# Altium integrated library Xilinx CoolRunner XPLA3.IntLib: 220 symbols (part 12 of 17)
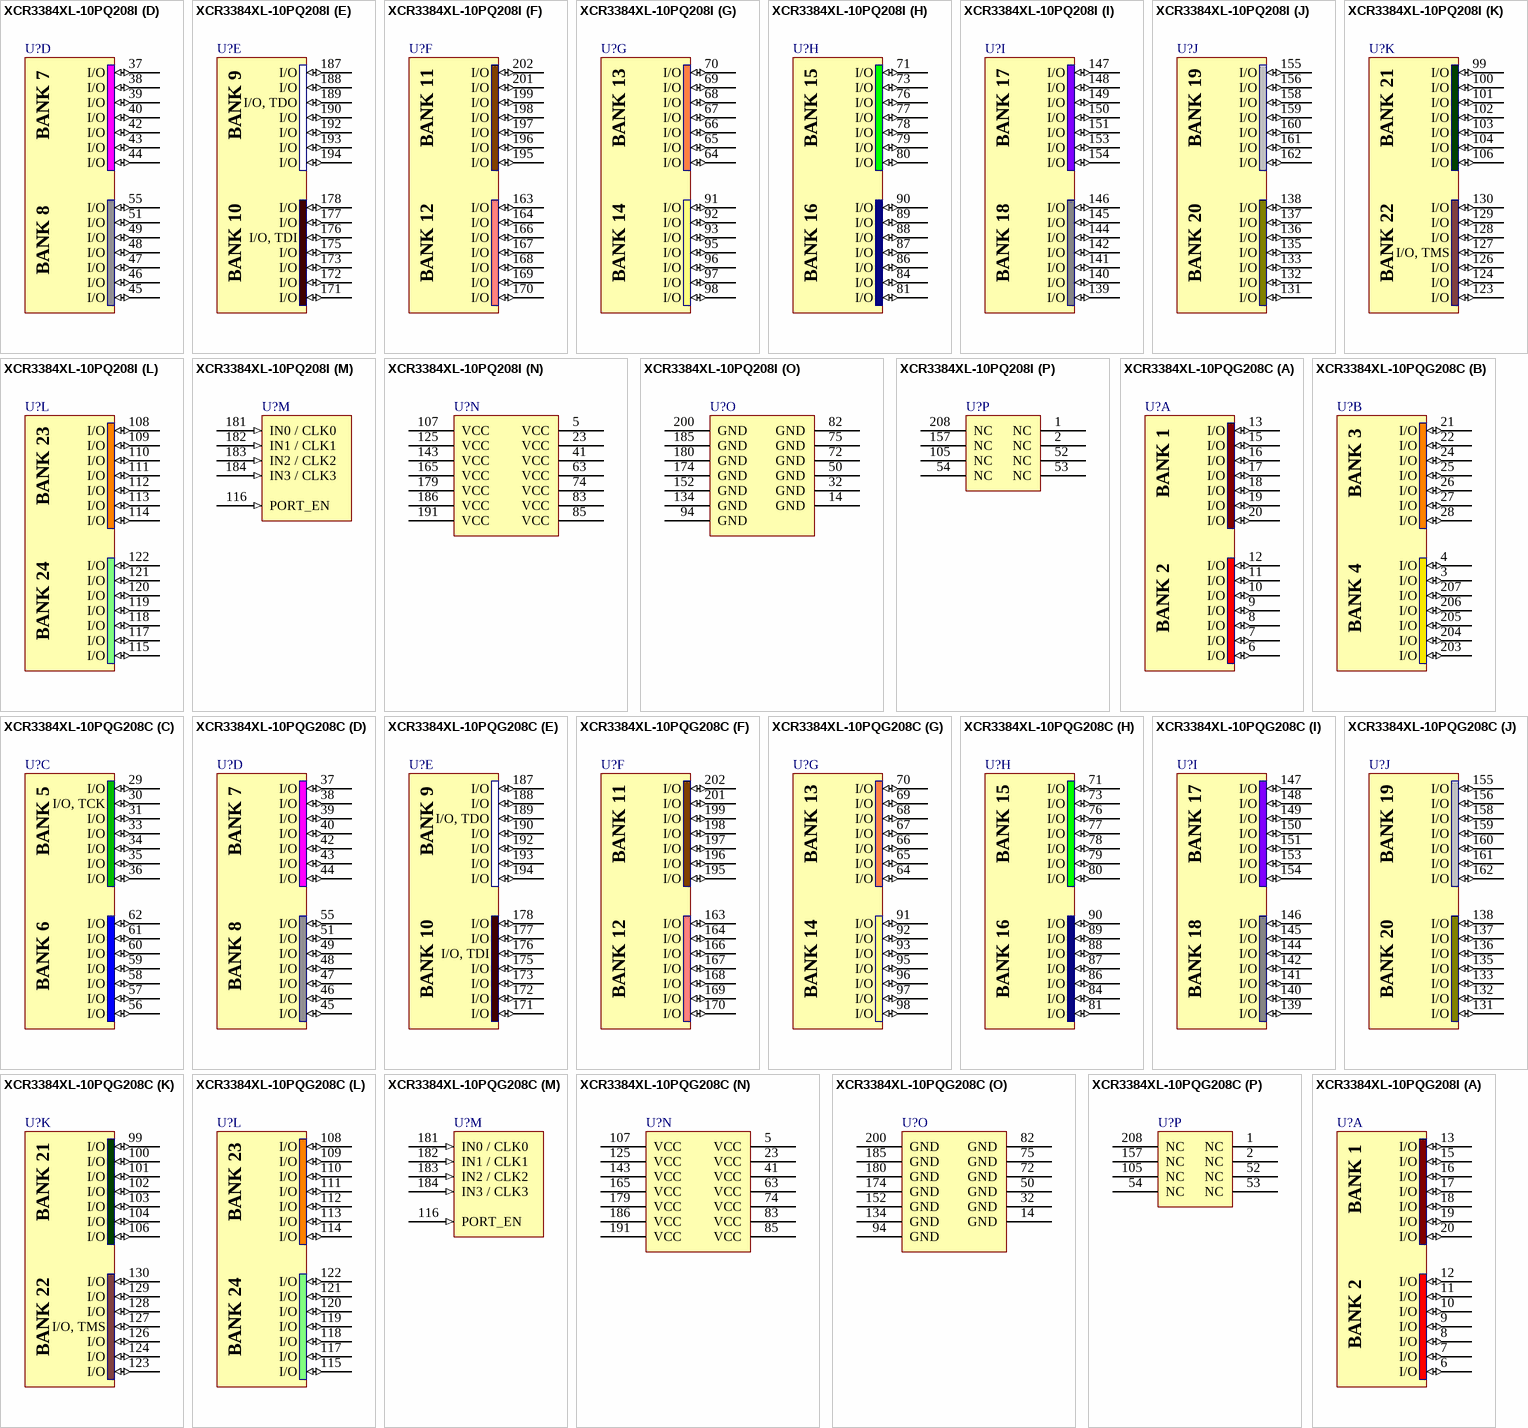
[diagram p100: symbols XCR3384XL-10PQ208I to XCR3384XL-10PQG208I]

## XCR3384XL-10PQG208C
designator U?
CoolRunner XPLA3 3.3V, 384 Macrocell CPLD, 172 User I/Os, 208-Pin PQFP, Commercial Grade, Pb-Free; Published: 6-Oct-2005; LatestRevisionDate: 13-Apr-2006; LatestRevisionNote: IPC-7351 Footprint Added.; DatasheetVersion: ver2.0, Mar-2006; PackageVersion: ver1.2, Jun-2004; PackageReference: PQG208; Publisher: Altium Limited; PackageDescription: 208-Pin Plastic Quad Flat Pack (PQG208) - Pb-Free; Code_JEDEC: MS-029-FA-1; ComponentLink1Description: XCR3384XL Datasheet; ComponentLink1URL: http://www.xilinx.com/support/documentation/data_sheets/ds024.pdf; ComponentLink2Description: PQG208 Package Drawing; ComponentLink2URL: http://www.xilinx.com/support/documentation/package_specs/pq208.pdf; ComponentLink3Description: CoolRunner XPLA3 Documents; ComponentLink3URL: http://www.xilinx.com/support/documentation/coolrunner_xpla3.htm; ComponentLink4Description: Xilinx.com Home; ComponentLink4URL: http://www.xilinx.com
footprint PQG208_N (Shrink QFP, 208-Leads, Body 28x28mm, Pitch 0.5mm, IPC Medium Density)
footprint PQG208_L (Shrink QFP, 208-Leads, Body 28x28mm, Pitch 0.5mm, IPC High Density)
footprint PQG208_M (Shrink QFP, 208-Leads, Body 28x28mm, Pitch 0.5mm, IPC Low Density)
signal-integrity model XCR3384XL_PQ208 (CoolRunner XPLA3)
part A pins: 6 I/O (io), 7 I/O (io), 8 I/O (io), 9 I/O (io), 10 I/O (io), 11 I/O (io), 12 I/O (io), 13 I/O (io), 15 I/O (io), 16 I/O (io), 17 I/O (io), 18 I/O (io), 19 I/O (io), 20 I/O (io)
part B pins: 3 I/O (io), 4 I/O (io), 21 I/O (io), 22 I/O (io), 24 I/O (io), 25 I/O (io), 26 I/O (io), 27 I/O (io), 28 I/O (io), 203 I/O (io), 204 I/O (io), 205 I/O (io), 206 I/O (io), 207 I/O (io)
part C pins: 29 I/O (io), 30 I/O, TCK (io), 31 I/O (io), 33 I/O (io), 34 I/O (io), 35 I/O (io), 36 I/O (io), 56 I/O (io), 57 I/O (io), 58 I/O (io), 59 I/O (io), 60 I/O (io), 61 I/O (io), 62 I/O (io)
part D pins: 37 I/O (io), 38 I/O (io), 39 I/O (io), 40 I/O (io), 42 I/O (io), 43 I/O (io), 44 I/O (io), 45 I/O (io), 46 I/O (io), 47 I/O (io), 48 I/O (io), 49 I/O (io), 51 I/O (io), 55 I/O (io)
part E pins: 171 I/O (io), 172 I/O (io), 173 I/O (io), 175 I/O (io), 176 I/O, TDI (io), 177 I/O (io), 178 I/O (io), 187 I/O (io), 188 I/O (io), 189 I/O, TDO (io), 190 I/O (io), 192 I/O (io), 193 I/O (io), 194 I/O (io)
part F pins: 163 I/O (io), 164 I/O (io), 166 I/O (io), 167 I/O (io), 168 I/O (io), 169 I/O (io), 170 I/O (io), 195 I/O (io), 196 I/O (io), 197 I/O (io), 198 I/O (io), 199 I/O (io), 201 I/O (io), 202 I/O (io)
part G pins: 64 I/O (io), 65 I/O (io), 66 I/O (io), 67 I/O (io), 68 I/O (io), 69 I/O (io), 70 I/O (io), 91 I/O (io), 92 I/O (io), 93 I/O (io), 95 I/O (io), 96 I/O (io), 97 I/O (io), 98 I/O (io)
part H pins: 71 I/O (io), 73 I/O (io), 76 I/O (io), 77 I/O (io), 78 I/O (io), 79 I/O (io), 80 I/O (io), 81 I/O (io), 84 I/O (io), 86 I/O (io), 87 I/O (io), 88 I/O (io), 89 I/O (io), 90 I/O (io)
part I pins: 139 I/O (io), 140 I/O (io), 141 I/O (io), 142 I/O (io), 144 I/O (io), 145 I/O (io), 146 I/O (io), 147 I/O (io), 148 I/O (io), 149 I/O (io), 150 I/O (io), 151 I/O (io), 153 I/O (io), 154 I/O (io)
part J pins: 131 I/O (io), 132 I/O (io), 133 I/O (io), 135 I/O (io), 136 I/O (io), 137 I/O (io), 138 I/O (io), 155 I/O (io), 156 I/O (io), 158 I/O (io), 159 I/O (io), 160 I/O (io), 161 I/O (io), 162 I/O (io)
part K pins: 99 I/O (io), 100 I/O (io), 101 I/O (io), 102 I/O (io), 103 I/O (io), 104 I/O (io), 106 I/O (io), 123 I/O (io), 124 I/O (io), 126 I/O (io), 127 I/O, TMS (io), 128 I/O (io), 129 I/O (io), 130 I/O (io)
part L pins: 108 I/O (io), 109 I/O (io), 110 I/O (io), 111 I/O (io), 112 I/O (io), 113 I/O (io), 114 I/O (io), 115 I/O (io), 117 I/O (io), 118 I/O (io), 119 I/O (io), 120 I/O (io), 121 I/O (io), 122 I/O (io)
part M pins: 116 PORT_EN (in), 181 IN0 / CLK0 (in), 182 IN1 / CLK1 (in), 183 IN2 / CLK2 (in), 184 IN3 / CLK3 (in)
part N pins: 5 VCC (power), 23 VCC (power), 41 VCC (power), 63 VCC (power), 74 VCC (power), 83 VCC (power), 85 VCC (power), 107 VCC (power), 125 VCC (power), 143 VCC (power), 165 VCC (power), 179 VCC (power), 186 VCC (power), 191 VCC (power)
part O pins: 14 GND (power), 32 GND (power), 50 GND (power), 72 GND (power), 75 GND (power), 82 GND (power), 94 GND (power), 134 GND (power), 152 GND (power), 174 GND (power), 180 GND (power), 185 GND (power), 200 GND (power)
part P pins: 1 NC, 2 NC, 52 NC, 53 NC, 54 NC, 105 NC, 157 NC, 208 NC
part A text: BANK 1; BANK 2
part B text: BANK 3; BANK 4
part C text: BANK 5; BANK 6
part D text: BANK 7; BANK 8
part E text: BANK 9; BANK 10
part F text: BANK 11; BANK 12
part G text: BANK 13; BANK 14
part H text: BANK 15; BANK 16
part I text: BANK 17; BANK 18
part J text: BANK 19; BANK 20
part K text: BANK 21; BANK 22
part L text: BANK 23; BANK 24

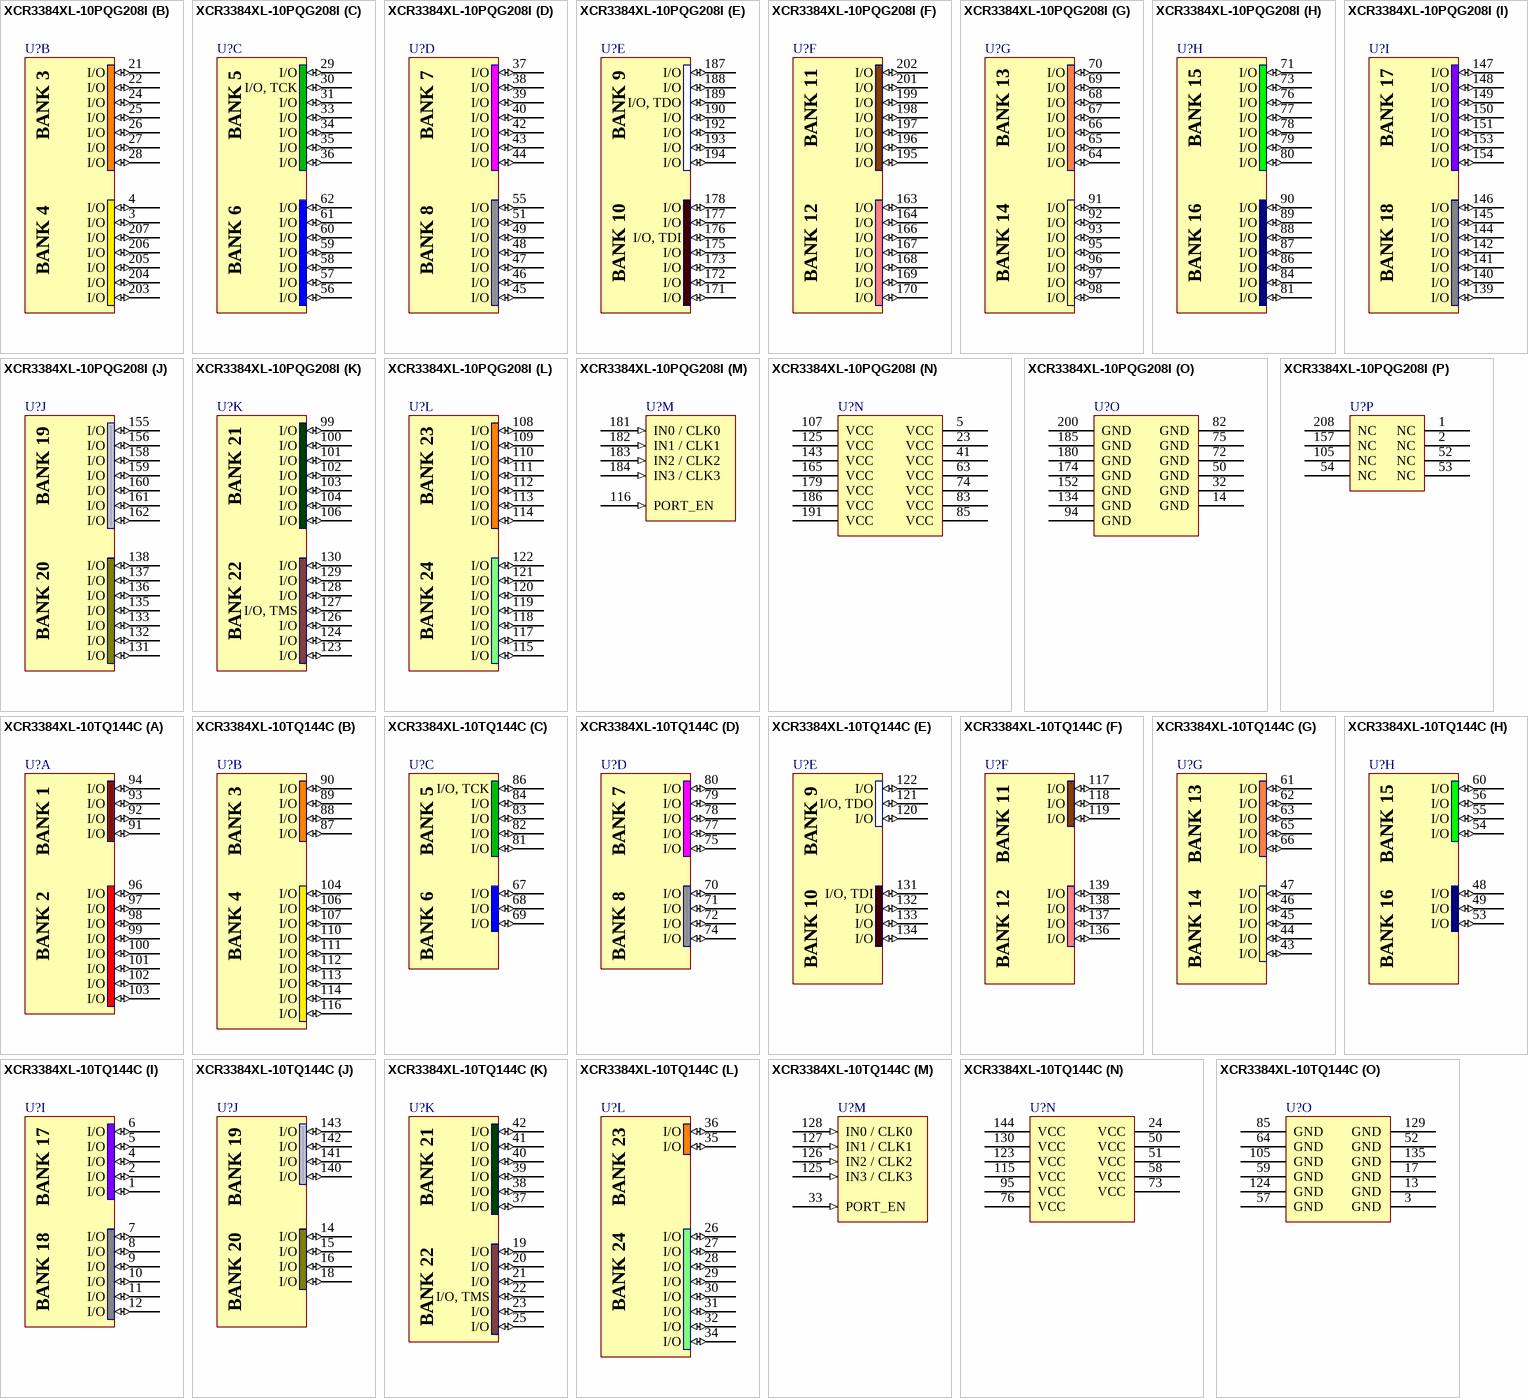
[diagram p58: symbols XCR3384XL-10PQG208I to XCR3384XL-10TQ144C]

## XCR3384XL-10PQG208I
designator U?
CoolRunner XPLA3 3.3V, 384 Macrocell CPLD, 172 User I/Os, 208-Pin PQFP, Industrial Grade, Pb-Free; Published: 6-Oct-2005; LatestRevisionDate: 13-Apr-2006; LatestRevisionNote: IPC-7351 Footprint Added.; DatasheetVersion: ver2.0, Mar-2006; PackageVersion: ver1.2, Jun-2004; PackageReference: PQG208; Publisher: Altium Limited; PackageDescription: 208-Pin Plastic Quad Flat Pack (PQG208) - Pb-Free; Code_JEDEC: MS-029-FA-1; ComponentLink1Description: XCR3384XL Datasheet; ComponentLink1URL: http://www.xilinx.com/support/documentation/data_sheets/ds024.pdf; ComponentLink2Description: PQG208 Package Drawing; ComponentLink2URL: http://www.xilinx.com/support/documentation/package_specs/pq208.pdf; ComponentLink3Description: CoolRunner XPLA3 Documents; ComponentLink3URL: http://www.xilinx.com/support/documentation/coolrunner_xpla3.htm; ComponentLink4Description: Xilinx.com Home; ComponentLink4URL: http://www.xilinx.com
footprint PQG208_N (Shrink QFP, 208-Leads, Body 28x28mm, Pitch 0.5mm, IPC Medium Density)
footprint PQG208_L (Shrink QFP, 208-Leads, Body 28x28mm, Pitch 0.5mm, IPC High Density)
footprint PQG208_M (Shrink QFP, 208-Leads, Body 28x28mm, Pitch 0.5mm, IPC Low Density)
signal-integrity model XCR3384XL_PQ208 (CoolRunner XPLA3)
part A pins: 6 I/O (io), 7 I/O (io), 8 I/O (io), 9 I/O (io), 10 I/O (io), 11 I/O (io), 12 I/O (io), 13 I/O (io), 15 I/O (io), 16 I/O (io), 17 I/O (io), 18 I/O (io), 19 I/O (io), 20 I/O (io)
part B pins: 3 I/O (io), 4 I/O (io), 21 I/O (io), 22 I/O (io), 24 I/O (io), 25 I/O (io), 26 I/O (io), 27 I/O (io), 28 I/O (io), 203 I/O (io), 204 I/O (io), 205 I/O (io), 206 I/O (io), 207 I/O (io)
part C pins: 29 I/O (io), 30 I/O, TCK (io), 31 I/O (io), 33 I/O (io), 34 I/O (io), 35 I/O (io), 36 I/O (io), 56 I/O (io), 57 I/O (io), 58 I/O (io), 59 I/O (io), 60 I/O (io), 61 I/O (io), 62 I/O (io)
part D pins: 37 I/O (io), 38 I/O (io), 39 I/O (io), 40 I/O (io), 42 I/O (io), 43 I/O (io), 44 I/O (io), 45 I/O (io), 46 I/O (io), 47 I/O (io), 48 I/O (io), 49 I/O (io), 51 I/O (io), 55 I/O (io)
part E pins: 171 I/O (io), 172 I/O (io), 173 I/O (io), 175 I/O (io), 176 I/O, TDI (io), 177 I/O (io), 178 I/O (io), 187 I/O (io), 188 I/O (io), 189 I/O, TDO (io), 190 I/O (io), 192 I/O (io), 193 I/O (io), 194 I/O (io)
part F pins: 163 I/O (io), 164 I/O (io), 166 I/O (io), 167 I/O (io), 168 I/O (io), 169 I/O (io), 170 I/O (io), 195 I/O (io), 196 I/O (io), 197 I/O (io), 198 I/O (io), 199 I/O (io), 201 I/O (io), 202 I/O (io)
part G pins: 64 I/O (io), 65 I/O (io), 66 I/O (io), 67 I/O (io), 68 I/O (io), 69 I/O (io), 70 I/O (io), 91 I/O (io), 92 I/O (io), 93 I/O (io), 95 I/O (io), 96 I/O (io), 97 I/O (io), 98 I/O (io)
part H pins: 71 I/O (io), 73 I/O (io), 76 I/O (io), 77 I/O (io), 78 I/O (io), 79 I/O (io), 80 I/O (io), 81 I/O (io), 84 I/O (io), 86 I/O (io), 87 I/O (io), 88 I/O (io), 89 I/O (io), 90 I/O (io)
part I pins: 139 I/O (io), 140 I/O (io), 141 I/O (io), 142 I/O (io), 144 I/O (io), 145 I/O (io), 146 I/O (io), 147 I/O (io), 148 I/O (io), 149 I/O (io), 150 I/O (io), 151 I/O (io), 153 I/O (io), 154 I/O (io)
part J pins: 131 I/O (io), 132 I/O (io), 133 I/O (io), 135 I/O (io), 136 I/O (io), 137 I/O (io), 138 I/O (io), 155 I/O (io), 156 I/O (io), 158 I/O (io), 159 I/O (io), 160 I/O (io), 161 I/O (io), 162 I/O (io)
part K pins: 99 I/O (io), 100 I/O (io), 101 I/O (io), 102 I/O (io), 103 I/O (io), 104 I/O (io), 106 I/O (io), 123 I/O (io), 124 I/O (io), 126 I/O (io), 127 I/O, TMS (io), 128 I/O (io), 129 I/O (io), 130 I/O (io)
part L pins: 108 I/O (io), 109 I/O (io), 110 I/O (io), 111 I/O (io), 112 I/O (io), 113 I/O (io), 114 I/O (io), 115 I/O (io), 117 I/O (io), 118 I/O (io), 119 I/O (io), 120 I/O (io), 121 I/O (io), 122 I/O (io)
part M pins: 116 PORT_EN (in), 181 IN0 / CLK0 (in), 182 IN1 / CLK1 (in), 183 IN2 / CLK2 (in), 184 IN3 / CLK3 (in)
part N pins: 5 VCC (power), 23 VCC (power), 41 VCC (power), 63 VCC (power), 74 VCC (power), 83 VCC (power), 85 VCC (power), 107 VCC (power), 125 VCC (power), 143 VCC (power), 165 VCC (power), 179 VCC (power), 186 VCC (power), 191 VCC (power)
part O pins: 14 GND (power), 32 GND (power), 50 GND (power), 72 GND (power), 75 GND (power), 82 GND (power), 94 GND (power), 134 GND (power), 152 GND (power), 174 GND (power), 180 GND (power), 185 GND (power), 200 GND (power)
part P pins: 1 NC, 2 NC, 52 NC, 53 NC, 54 NC, 105 NC, 157 NC, 208 NC
part A text: BANK 1; BANK 2
part B text: BANK 3; BANK 4
part C text: BANK 5; BANK 6
part D text: BANK 7; BANK 8
part E text: BANK 9; BANK 10
part F text: BANK 11; BANK 12
part G text: BANK 13; BANK 14
part H text: BANK 15; BANK 16
part I text: BANK 17; BANK 18
part J text: BANK 19; BANK 20
part K text: BANK 21; BANK 22
part L text: BANK 23; BANK 24

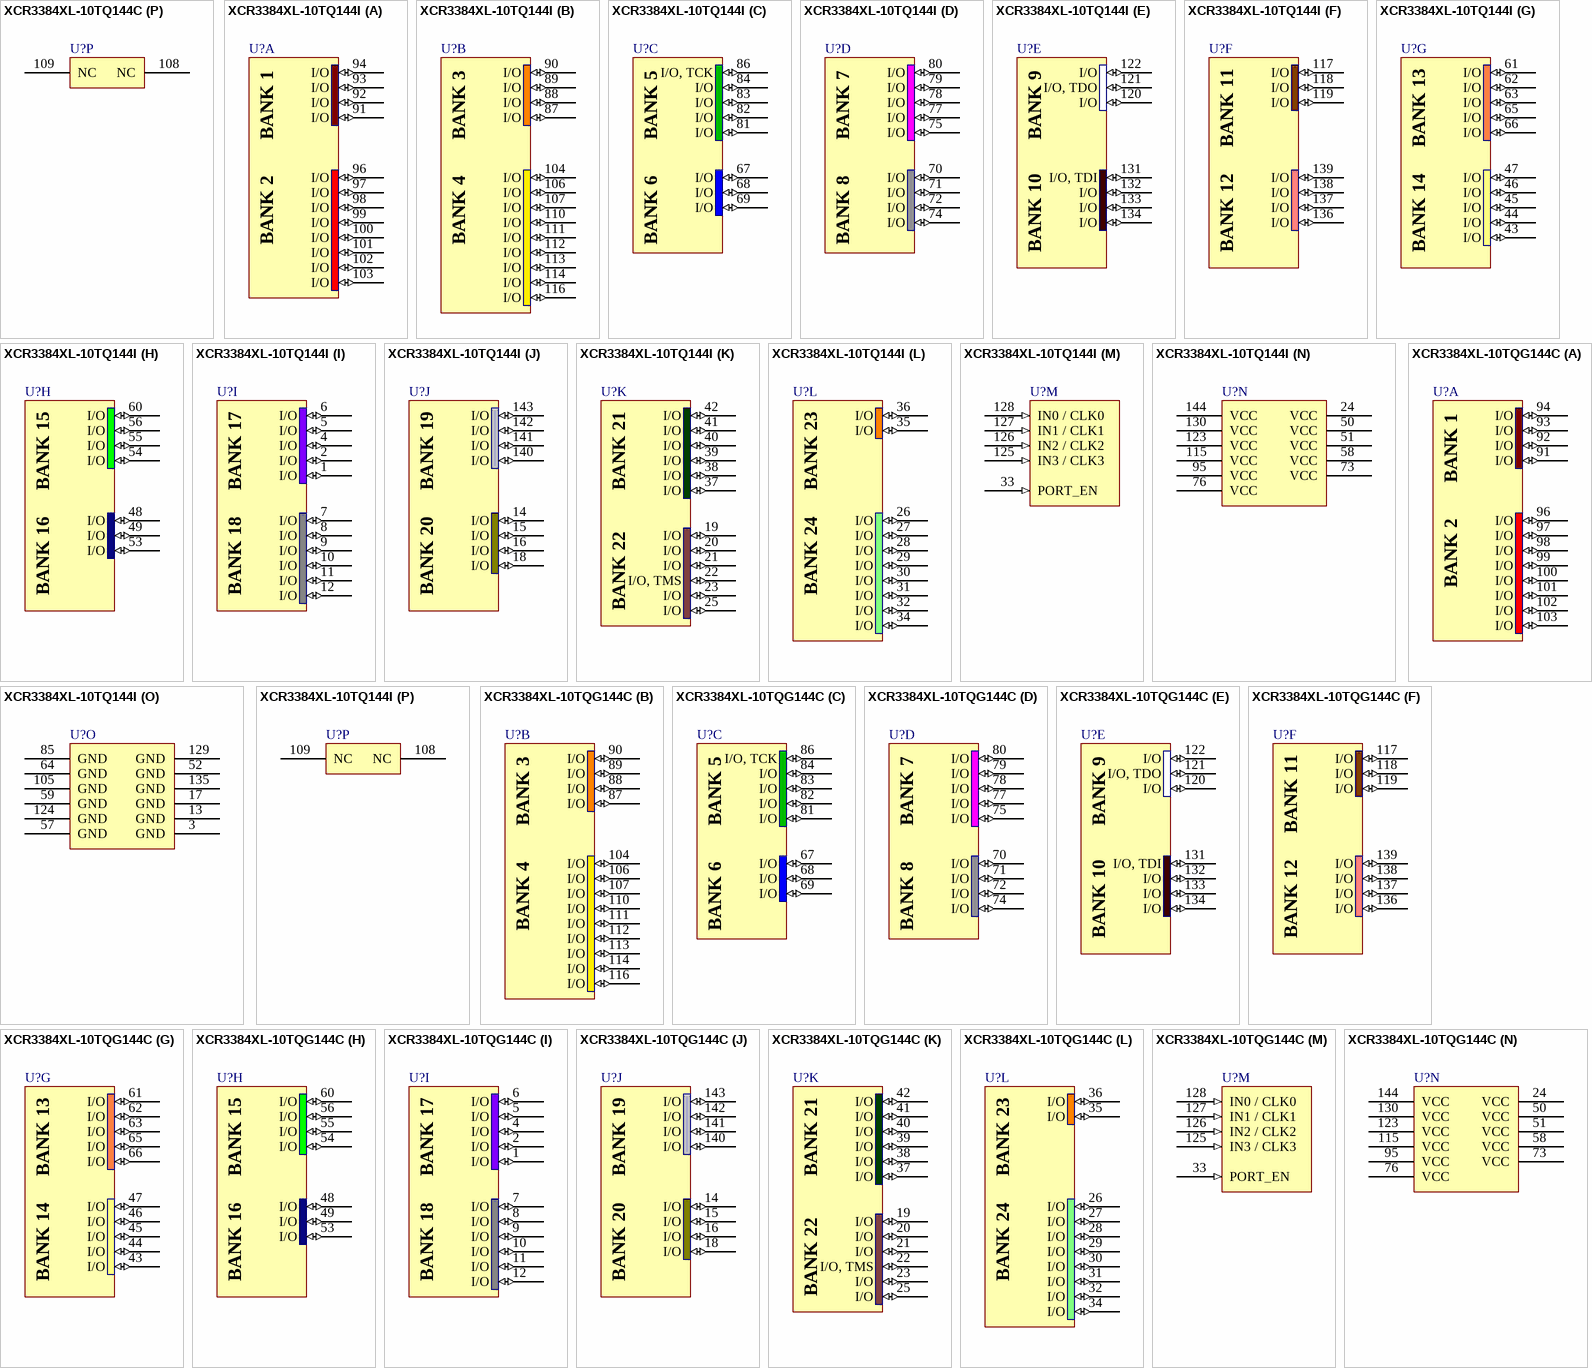
[diagram p59: symbols XCR3384XL-10TQ144C to XCR3384XL-10TQG144C]

## XCR3384XL-10TQ144C
designator U?
CoolRunner XPLA3 3.3V, 384 Macrocell CPLD, 118 User I/Os, 144-Pin TQFP, Commercial Grade; Published: 17-Jul-2002; LatestRevisionDate: 13-Apr-2006; LatestRevisionNote: IPC-7351 Footprint Added.; DatasheetVersion: ver2.0, Mar-2006; PackageVersion: ver1.2, Jun-2004; PackageReference: TQ144; Publisher: Altium Limited; PackageDescription: 144-Pin Thin Quad Flat Pack (TQ144); Code_JEDEC: MS-026-BFB; ComponentLink1Description: XCR3384XL Datasheet; ComponentLink1URL: http://www.xilinx.com/support/documentation/data_sheets/ds024.pdf; ComponentLink2Description: TQ144 Package Drawing; ComponentLink2URL: http://www.xilinx.com/support/documentation/package_specs/tq144.pdf; ComponentLink3Description: CoolRunner XPLA3 Documents; ComponentLink3URL: http://www.xilinx.com/support/documentation/coolrunner_xpla3.htm; ComponentLink4Description: Xilinx.com Home; ComponentLink4URL: http://www.xilinx.com
footprint TQ144_N (Thin QFP, 144-Leads, Body 20x20mm, Pitch 0.5mm, IPC Medium Density)
footprint TQ144_L (Thin QFP, 144-Leads, Body 20x20mm, Pitch 0.5mm, IPC High Density)
footprint TQ144_M (Thin QFP, 144-Leads, Body 20x20mm, Pitch 0.5mm, IPC Low Density)
signal-integrity model XCR3384XL_TQ144 (CoolRunner XPLA3)
part A pins: 91 I/O (io), 92 I/O (io), 93 I/O (io), 94 I/O (io), 96 I/O (io), 97 I/O (io), 98 I/O (io), 99 I/O (io), 100 I/O (io), 101 I/O (io), 102 I/O (io), 103 I/O (io)
part B pins: 87 I/O (io), 88 I/O (io), 89 I/O (io), 90 I/O (io), 104 I/O (io), 106 I/O (io), 107 I/O (io), 110 I/O (io), 111 I/O (io), 112 I/O (io), 113 I/O (io), 114 I/O (io), 116 I/O (io)
part C pins: 67 I/O (io), 68 I/O (io), 69 I/O (io), 81 I/O (io), 82 I/O (io), 83 I/O (io), 84 I/O (io), 86 I/O, TCK (io)
part D pins: 70 I/O (io), 71 I/O (io), 72 I/O (io), 74 I/O (io), 75 I/O (io), 77 I/O (io), 78 I/O (io), 79 I/O (io), 80 I/O (io)
part E pins: 120 I/O (io), 121 I/O, TDO (io), 122 I/O (io), 131 I/O, TDI (io), 132 I/O (io), 133 I/O (io), 134 I/O (io)
part F pins: 117 I/O (io), 118 I/O (io), 119 I/O (io), 136 I/O (io), 137 I/O (io), 138 I/O (io), 139 I/O (io)
part G pins: 43 I/O (io), 44 I/O (io), 45 I/O (io), 46 I/O (io), 47 I/O (io), 61 I/O (io), 62 I/O (io), 63 I/O (io), 65 I/O (io), 66 I/O (io)
part H pins: 48 I/O (io), 49 I/O (io), 53 I/O (io), 54 I/O (io), 55 I/O (io), 56 I/O (io), 60 I/O (io)
part I pins: 1 I/O (io), 2 I/O (io), 4 I/O (io), 5 I/O (io), 6 I/O (io), 7 I/O (io), 8 I/O (io), 9 I/O (io), 10 I/O (io), 11 I/O (io), 12 I/O (io)
part J pins: 14 I/O (io), 15 I/O (io), 16 I/O (io), 18 I/O (io), 140 I/O (io), 141 I/O (io), 142 I/O (io), 143 I/O (io)
part K pins: 19 I/O (io), 20 I/O (io), 21 I/O (io), 22 I/O, TMS (io), 23 I/O (io), 25 I/O (io), 37 I/O (io), 38 I/O (io), 39 I/O (io), 40 I/O (io), 41 I/O (io), 42 I/O (io)
part L pins: 26 I/O (io), 27 I/O (io), 28 I/O (io), 29 I/O (io), 30 I/O (io), 31 I/O (io), 32 I/O (io), 34 I/O (io), 35 I/O (io), 36 I/O (io)
part M pins: 33 PORT_EN (in), 125 IN3 / CLK3 (in), 126 IN2 / CLK2 (in), 127 IN1 / CLK1 (in), 128 IN0 / CLK0 (in)
part N pins: 24 VCC (power), 50 VCC (power), 51 VCC (power), 58 VCC (power), 73 VCC (power), 76 VCC (power), 95 VCC (power), 115 VCC (power), 123 VCC (power), 130 VCC (power), 144 VCC (power)
part O pins: 3 GND (power), 13 GND (power), 17 GND (power), 52 GND (power), 57 GND (power), 59 GND (power), 64 GND (power), 85 GND (power), 105 GND (power), 124 GND (power), 129 GND (power), 135 GND (power)
part P pins: 108 NC, 109 NC
part A text: BANK 1; BANK 2
part B text: BANK 3; BANK 4
part C text: BANK 5; BANK 6
part D text: BANK 7; BANK 8
part E text: BANK 9; BANK 10
part F text: BANK 11; BANK 12
part G text: BANK 13; BANK 14
part H text: BANK 15; BANK 16
part I text: BANK 17; BANK 18
part J text: BANK 19; BANK 20
part K text: BANK 21; BANK 22
part L text: BANK 23; BANK 24

## XCR3384XL-10TQ144I
designator U?
CoolRunner XPLA3 3.3V, 384 Macrocell CPLD, 118 User I/Os, 144-Pin TQFP, Industrial Grade; Published: 17-Jul-2002; LatestRevisionDate: 13-Apr-2006; LatestRevisionNote: IPC-7351 Footprint Added.; DatasheetVersion: ver2.0, Mar-2006; PackageVersion: ver1.2, Jun-2004; PackageReference: TQ144; Publisher: Altium Limited; PackageDescription: 144-Pin Thin Quad Flat Pack (TQ144); Code_JEDEC: MS-026-BFB; ComponentLink1Description: XCR3384XL Datasheet; ComponentLink1URL: http://www.xilinx.com/support/documentation/data_sheets/ds024.pdf; ComponentLink2Description: TQ144 Package Drawing; ComponentLink2URL: http://www.xilinx.com/support/documentation/package_specs/tq144.pdf; ComponentLink3Description: CoolRunner XPLA3 Documents; ComponentLink3URL: http://www.xilinx.com/support/documentation/coolrunner_xpla3.htm; ComponentLink4Description: Xilinx.com Home; ComponentLink4URL: http://www.xilinx.com
footprint TQ144_N (Thin QFP, 144-Leads, Body 20x20mm, Pitch 0.5mm, IPC Medium Density)
footprint TQ144_L (Thin QFP, 144-Leads, Body 20x20mm, Pitch 0.5mm, IPC High Density)
footprint TQ144_M (Thin QFP, 144-Leads, Body 20x20mm, Pitch 0.5mm, IPC Low Density)
signal-integrity model XCR3384XL_TQ144 (CoolRunner XPLA3)
part A pins: 91 I/O (io), 92 I/O (io), 93 I/O (io), 94 I/O (io), 96 I/O (io), 97 I/O (io), 98 I/O (io), 99 I/O (io), 100 I/O (io), 101 I/O (io), 102 I/O (io), 103 I/O (io)
part B pins: 87 I/O (io), 88 I/O (io), 89 I/O (io), 90 I/O (io), 104 I/O (io), 106 I/O (io), 107 I/O (io), 110 I/O (io), 111 I/O (io), 112 I/O (io), 113 I/O (io), 114 I/O (io), 116 I/O (io)
part C pins: 67 I/O (io), 68 I/O (io), 69 I/O (io), 81 I/O (io), 82 I/O (io), 83 I/O (io), 84 I/O (io), 86 I/O, TCK (io)
part D pins: 70 I/O (io), 71 I/O (io), 72 I/O (io), 74 I/O (io), 75 I/O (io), 77 I/O (io), 78 I/O (io), 79 I/O (io), 80 I/O (io)
part E pins: 120 I/O (io), 121 I/O, TDO (io), 122 I/O (io), 131 I/O, TDI (io), 132 I/O (io), 133 I/O (io), 134 I/O (io)
part F pins: 117 I/O (io), 118 I/O (io), 119 I/O (io), 136 I/O (io), 137 I/O (io), 138 I/O (io), 139 I/O (io)
part G pins: 43 I/O (io), 44 I/O (io), 45 I/O (io), 46 I/O (io), 47 I/O (io), 61 I/O (io), 62 I/O (io), 63 I/O (io), 65 I/O (io), 66 I/O (io)
part H pins: 48 I/O (io), 49 I/O (io), 53 I/O (io), 54 I/O (io), 55 I/O (io), 56 I/O (io), 60 I/O (io)
part I pins: 1 I/O (io), 2 I/O (io), 4 I/O (io), 5 I/O (io), 6 I/O (io), 7 I/O (io), 8 I/O (io), 9 I/O (io), 10 I/O (io), 11 I/O (io), 12 I/O (io)
part J pins: 14 I/O (io), 15 I/O (io), 16 I/O (io), 18 I/O (io), 140 I/O (io), 141 I/O (io), 142 I/O (io), 143 I/O (io)
part K pins: 19 I/O (io), 20 I/O (io), 21 I/O (io), 22 I/O, TMS (io), 23 I/O (io), 25 I/O (io), 37 I/O (io), 38 I/O (io), 39 I/O (io), 40 I/O (io), 41 I/O (io), 42 I/O (io)
part L pins: 26 I/O (io), 27 I/O (io), 28 I/O (io), 29 I/O (io), 30 I/O (io), 31 I/O (io), 32 I/O (io), 34 I/O (io), 35 I/O (io), 36 I/O (io)
part M pins: 33 PORT_EN (in), 125 IN3 / CLK3 (in), 126 IN2 / CLK2 (in), 127 IN1 / CLK1 (in), 128 IN0 / CLK0 (in)
part N pins: 24 VCC (power), 50 VCC (power), 51 VCC (power), 58 VCC (power), 73 VCC (power), 76 VCC (power), 95 VCC (power), 115 VCC (power), 123 VCC (power), 130 VCC (power), 144 VCC (power)
part O pins: 3 GND (power), 13 GND (power), 17 GND (power), 52 GND (power), 57 GND (power), 59 GND (power), 64 GND (power), 85 GND (power), 105 GND (power), 124 GND (power), 129 GND (power), 135 GND (power)
part P pins: 108 NC, 109 NC
part A text: BANK 1; BANK 2
part B text: BANK 3; BANK 4
part C text: BANK 5; BANK 6
part D text: BANK 7; BANK 8
part E text: BANK 9; BANK 10
part F text: BANK 11; BANK 12
part G text: BANK 13; BANK 14
part H text: BANK 15; BANK 16
part I text: BANK 17; BANK 18
part J text: BANK 19; BANK 20
part K text: BANK 21; BANK 22
part L text: BANK 23; BANK 24

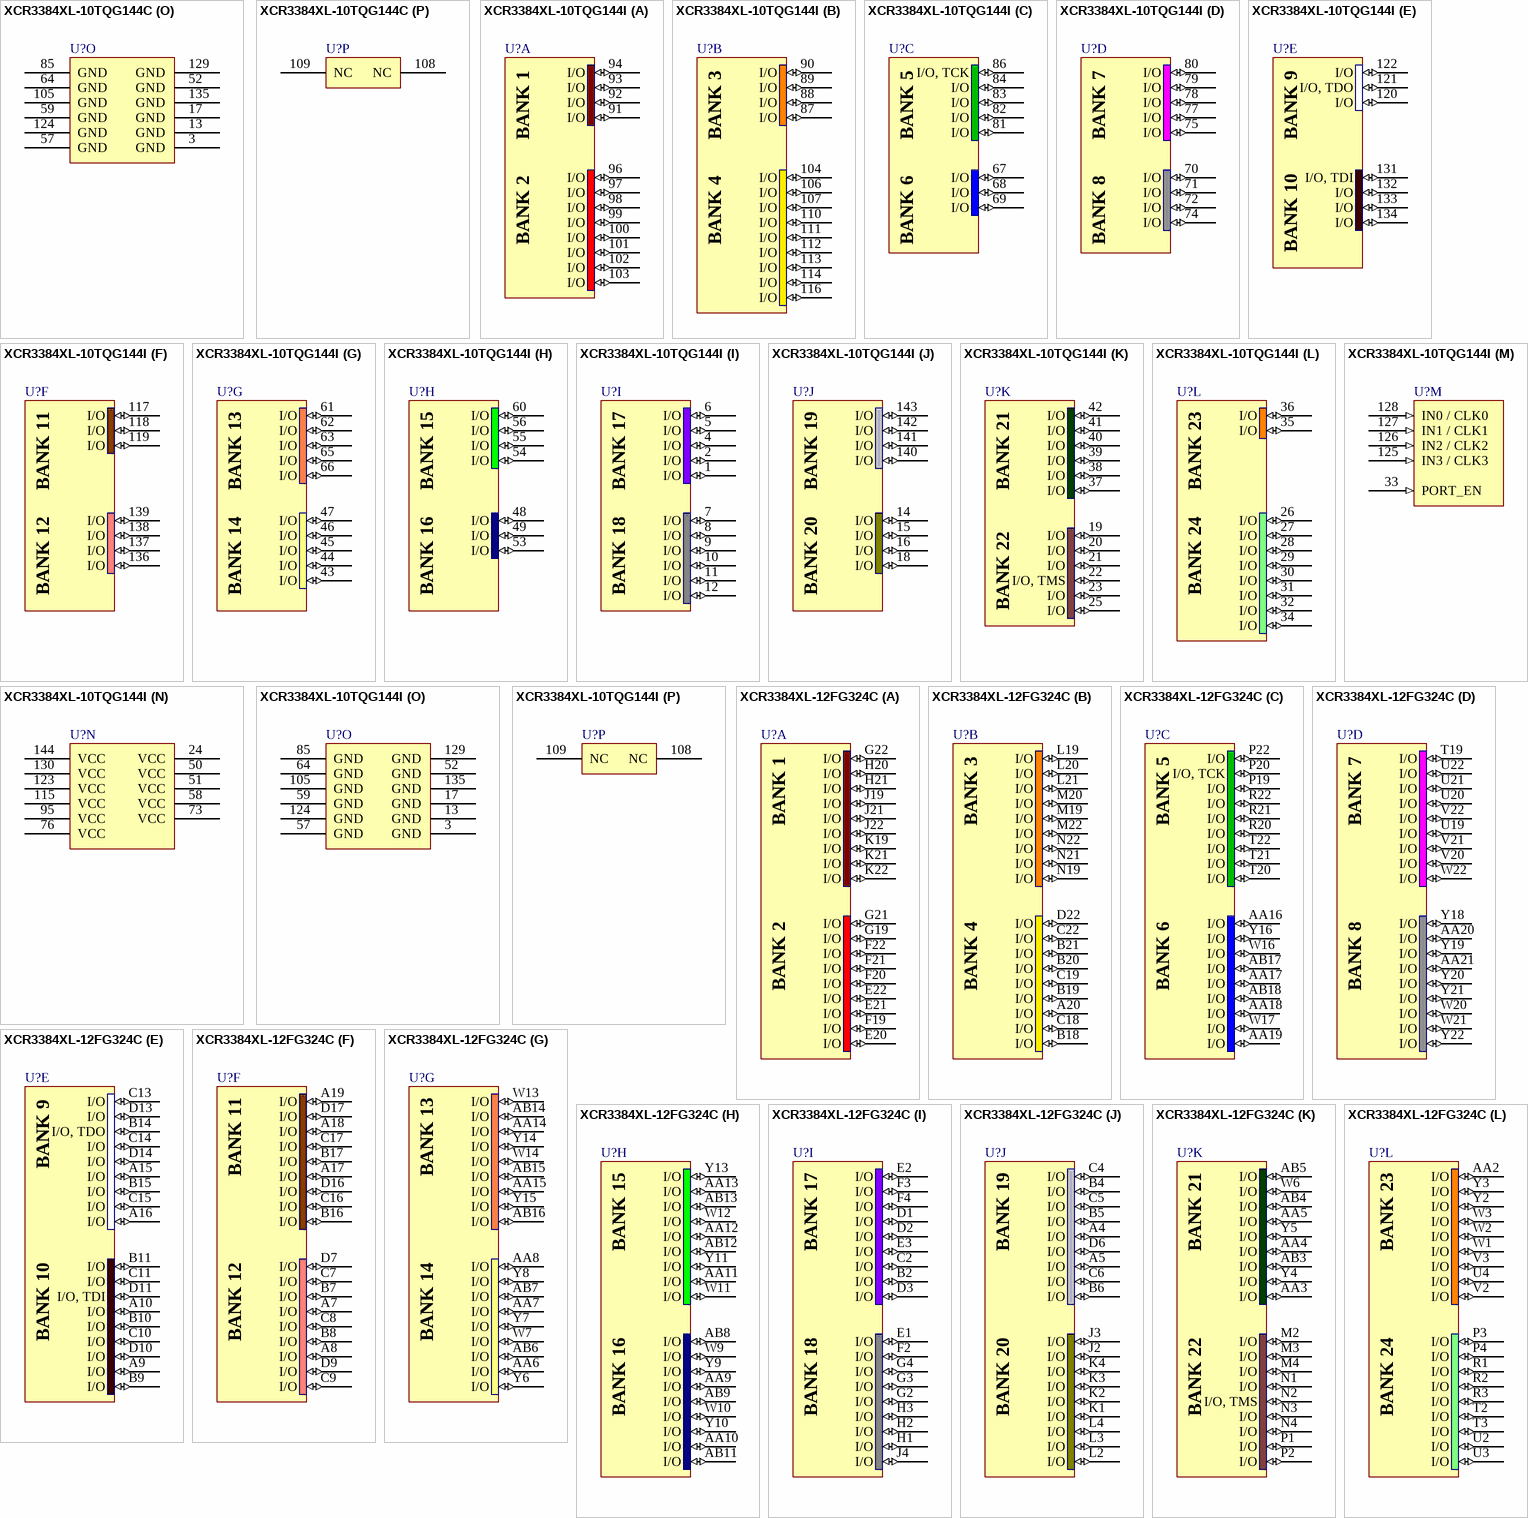
[diagram p60: symbols XCR3384XL-10TQG144C to XCR3384XL-12FG324C]

## XCR3384XL-10TQG144C
designator U?
CoolRunner XPLA3 3.3V, 384 Macrocell CPLD, 118 User I/Os, 144-Pin TQFP, Commercial Grade, Pb-Free; Published: 6-Oct-2005; LatestRevisionDate: 13-Apr-2006; LatestRevisionNote: IPC-7351 Footprint Added.; DatasheetVersion: ver2.0, Mar-2006; PackageVersion: ver1.2, Jun-2004; PackageReference: TQG144; Publisher: Altium Limited; PackageDescription: 144-Pin Thin Quad Flat Pack (TQG144) - Pb-Free; Code_JEDEC: MS-026-BFB; ComponentLink1Description: XCR3384XL Datasheet; ComponentLink1URL: http://www.xilinx.com/support/documentation/data_sheets/ds024.pdf; ComponentLink2Description: TQG144 Package Drawing; ComponentLink2URL: http://www.xilinx.com/support/documentation/package_specs/tq144.pdf; ComponentLink3Description: CoolRunner XPLA3 Documents; ComponentLink3URL: http://www.xilinx.com/support/documentation/coolrunner_xpla3.htm; ComponentLink4Description: Xilinx.com Home; ComponentLink4URL: http://www.xilinx.com
footprint TQG144_N (Thin QFP, 144-Leads, Body 20x20mm, Pitch 0.5mm, IPC Medium Density)
footprint TQG144_L (Thin QFP, 144-Leads, Body 20x20mm, Pitch 0.5mm, IPC High Density)
footprint TQG144_M (Thin QFP, 144-Leads, Body 20x20mm, Pitch 0.5mm, IPC Low Density)
signal-integrity model XCR3384XL_TQ144 (CoolRunner XPLA3)
part A pins: 91 I/O (io), 92 I/O (io), 93 I/O (io), 94 I/O (io), 96 I/O (io), 97 I/O (io), 98 I/O (io), 99 I/O (io), 100 I/O (io), 101 I/O (io), 102 I/O (io), 103 I/O (io)
part B pins: 87 I/O (io), 88 I/O (io), 89 I/O (io), 90 I/O (io), 104 I/O (io), 106 I/O (io), 107 I/O (io), 110 I/O (io), 111 I/O (io), 112 I/O (io), 113 I/O (io), 114 I/O (io), 116 I/O (io)
part C pins: 67 I/O (io), 68 I/O (io), 69 I/O (io), 81 I/O (io), 82 I/O (io), 83 I/O (io), 84 I/O (io), 86 I/O, TCK (io)
part D pins: 70 I/O (io), 71 I/O (io), 72 I/O (io), 74 I/O (io), 75 I/O (io), 77 I/O (io), 78 I/O (io), 79 I/O (io), 80 I/O (io)
part E pins: 120 I/O (io), 121 I/O, TDO (io), 122 I/O (io), 131 I/O, TDI (io), 132 I/O (io), 133 I/O (io), 134 I/O (io)
part F pins: 117 I/O (io), 118 I/O (io), 119 I/O (io), 136 I/O (io), 137 I/O (io), 138 I/O (io), 139 I/O (io)
part G pins: 43 I/O (io), 44 I/O (io), 45 I/O (io), 46 I/O (io), 47 I/O (io), 61 I/O (io), 62 I/O (io), 63 I/O (io), 65 I/O (io), 66 I/O (io)
part H pins: 48 I/O (io), 49 I/O (io), 53 I/O (io), 54 I/O (io), 55 I/O (io), 56 I/O (io), 60 I/O (io)
part I pins: 1 I/O (io), 2 I/O (io), 4 I/O (io), 5 I/O (io), 6 I/O (io), 7 I/O (io), 8 I/O (io), 9 I/O (io), 10 I/O (io), 11 I/O (io), 12 I/O (io)
part J pins: 14 I/O (io), 15 I/O (io), 16 I/O (io), 18 I/O (io), 140 I/O (io), 141 I/O (io), 142 I/O (io), 143 I/O (io)
part K pins: 19 I/O (io), 20 I/O (io), 21 I/O (io), 22 I/O, TMS (io), 23 I/O (io), 25 I/O (io), 37 I/O (io), 38 I/O (io), 39 I/O (io), 40 I/O (io), 41 I/O (io), 42 I/O (io)
part L pins: 26 I/O (io), 27 I/O (io), 28 I/O (io), 29 I/O (io), 30 I/O (io), 31 I/O (io), 32 I/O (io), 34 I/O (io), 35 I/O (io), 36 I/O (io)
part M pins: 33 PORT_EN (in), 125 IN3 / CLK3 (in), 126 IN2 / CLK2 (in), 127 IN1 / CLK1 (in), 128 IN0 / CLK0 (in)
part N pins: 24 VCC (power), 50 VCC (power), 51 VCC (power), 58 VCC (power), 73 VCC (power), 76 VCC (power), 95 VCC (power), 115 VCC (power), 123 VCC (power), 130 VCC (power), 144 VCC (power)
part O pins: 3 GND (power), 13 GND (power), 17 GND (power), 52 GND (power), 57 GND (power), 59 GND (power), 64 GND (power), 85 GND (power), 105 GND (power), 124 GND (power), 129 GND (power), 135 GND (power)
part P pins: 108 NC, 109 NC
part A text: BANK 1; BANK 2
part B text: BANK 3; BANK 4
part C text: BANK 5; BANK 6
part D text: BANK 7; BANK 8
part E text: BANK 9; BANK 10
part F text: BANK 11; BANK 12
part G text: BANK 13; BANK 14
part H text: BANK 15; BANK 16
part I text: BANK 17; BANK 18
part J text: BANK 19; BANK 20
part K text: BANK 21; BANK 22
part L text: BANK 23; BANK 24

## XCR3384XL-10TQG144I
designator U?
CoolRunner XPLA3 3.3V, 384 Macrocell CPLD, 118 User I/Os, 144-Pin TQFP, Industrial Grade, Pb-Free; Published: 6-Oct-2005; LatestRevisionDate: 13-Apr-2006; LatestRevisionNote: IPC-7351 Footprint Added.; DatasheetVersion: ver2.0, Mar-2006; PackageVersion: ver1.2, Jun-2004; PackageReference: TQG144; Publisher: Altium Limited; PackageDescription: 144-Pin Thin Quad Flat Pack (TQG144) - Pb-Free; Code_JEDEC: MS-026-BFB; ComponentLink1Description: XCR3384XL Datasheet; ComponentLink1URL: http://www.xilinx.com/support/documentation/data_sheets/ds024.pdf; ComponentLink2Description: TQG144 Package Drawing; ComponentLink2URL: http://www.xilinx.com/support/documentation/package_specs/tq144.pdf; ComponentLink3Description: CoolRunner XPLA3 Documents; ComponentLink3URL: http://www.xilinx.com/support/documentation/coolrunner_xpla3.htm; ComponentLink4Description: Xilinx.com Home; ComponentLink4URL: http://www.xilinx.com
footprint TQG144_N (Thin QFP, 144-Leads, Body 20x20mm, Pitch 0.5mm, IPC Medium Density)
footprint TQG144_L (Thin QFP, 144-Leads, Body 20x20mm, Pitch 0.5mm, IPC High Density)
footprint TQG144_M (Thin QFP, 144-Leads, Body 20x20mm, Pitch 0.5mm, IPC Low Density)
signal-integrity model XCR3384XL_TQ144 (CoolRunner XPLA3)
part A pins: 91 I/O (io), 92 I/O (io), 93 I/O (io), 94 I/O (io), 96 I/O (io), 97 I/O (io), 98 I/O (io), 99 I/O (io), 100 I/O (io), 101 I/O (io), 102 I/O (io), 103 I/O (io)
part B pins: 87 I/O (io), 88 I/O (io), 89 I/O (io), 90 I/O (io), 104 I/O (io), 106 I/O (io), 107 I/O (io), 110 I/O (io), 111 I/O (io), 112 I/O (io), 113 I/O (io), 114 I/O (io), 116 I/O (io)
part C pins: 67 I/O (io), 68 I/O (io), 69 I/O (io), 81 I/O (io), 82 I/O (io), 83 I/O (io), 84 I/O (io), 86 I/O, TCK (io)
part D pins: 70 I/O (io), 71 I/O (io), 72 I/O (io), 74 I/O (io), 75 I/O (io), 77 I/O (io), 78 I/O (io), 79 I/O (io), 80 I/O (io)
part E pins: 120 I/O (io), 121 I/O, TDO (io), 122 I/O (io), 131 I/O, TDI (io), 132 I/O (io), 133 I/O (io), 134 I/O (io)
part F pins: 117 I/O (io), 118 I/O (io), 119 I/O (io), 136 I/O (io), 137 I/O (io), 138 I/O (io), 139 I/O (io)
part G pins: 43 I/O (io), 44 I/O (io), 45 I/O (io), 46 I/O (io), 47 I/O (io), 61 I/O (io), 62 I/O (io), 63 I/O (io), 65 I/O (io), 66 I/O (io)
part H pins: 48 I/O (io), 49 I/O (io), 53 I/O (io), 54 I/O (io), 55 I/O (io), 56 I/O (io), 60 I/O (io)
part I pins: 1 I/O (io), 2 I/O (io), 4 I/O (io), 5 I/O (io), 6 I/O (io), 7 I/O (io), 8 I/O (io), 9 I/O (io), 10 I/O (io), 11 I/O (io), 12 I/O (io)
part J pins: 14 I/O (io), 15 I/O (io), 16 I/O (io), 18 I/O (io), 140 I/O (io), 141 I/O (io), 142 I/O (io), 143 I/O (io)
part K pins: 19 I/O (io), 20 I/O (io), 21 I/O (io), 22 I/O, TMS (io), 23 I/O (io), 25 I/O (io), 37 I/O (io), 38 I/O (io), 39 I/O (io), 40 I/O (io), 41 I/O (io), 42 I/O (io)
part L pins: 26 I/O (io), 27 I/O (io), 28 I/O (io), 29 I/O (io), 30 I/O (io), 31 I/O (io), 32 I/O (io), 34 I/O (io), 35 I/O (io), 36 I/O (io)
part M pins: 33 PORT_EN (in), 125 IN3 / CLK3 (in), 126 IN2 / CLK2 (in), 127 IN1 / CLK1 (in), 128 IN0 / CLK0 (in)
part N pins: 24 VCC (power), 50 VCC (power), 51 VCC (power), 58 VCC (power), 73 VCC (power), 76 VCC (power), 95 VCC (power), 115 VCC (power), 123 VCC (power), 130 VCC (power), 144 VCC (power)
part O pins: 3 GND (power), 13 GND (power), 17 GND (power), 52 GND (power), 57 GND (power), 59 GND (power), 64 GND (power), 85 GND (power), 105 GND (power), 124 GND (power), 129 GND (power), 135 GND (power)
part P pins: 108 NC, 109 NC
part A text: BANK 1; BANK 2
part B text: BANK 3; BANK 4
part C text: BANK 5; BANK 6
part D text: BANK 7; BANK 8
part E text: BANK 9; BANK 10
part F text: BANK 11; BANK 12
part G text: BANK 13; BANK 14
part H text: BANK 15; BANK 16
part I text: BANK 17; BANK 18
part J text: BANK 19; BANK 20
part K text: BANK 21; BANK 22
part L text: BANK 23; BANK 24

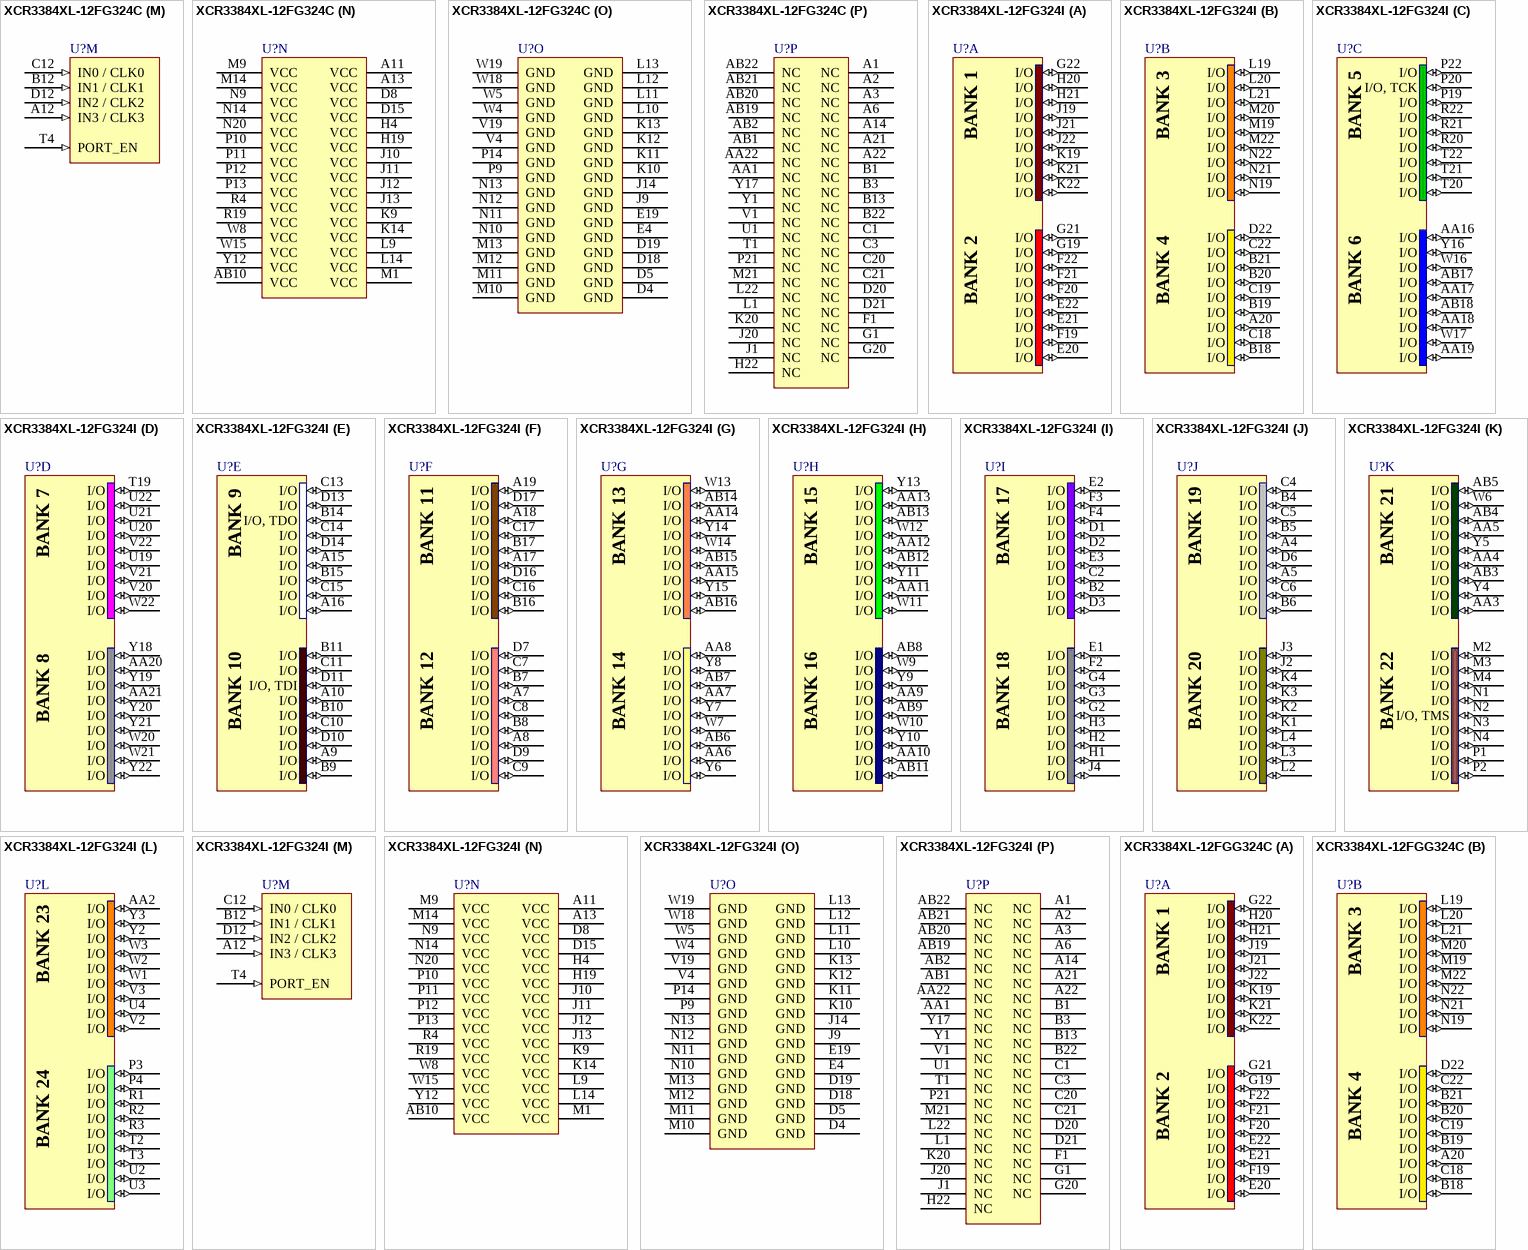
[diagram p61: symbols XCR3384XL-12FG324C to XCR3384XL-12FGG324C]

## XCR3384XL-12FG324C
designator U?
CoolRunner XPLA3 3.3V, 384 Macrocell CPLD, 220 User I/Os, 324-Ball FBGA, Commercial Grade; Published: 17-Jul-2002; LatestRevisionDate: 13-Apr-2006; LatestRevisionNote: IPC-7351 Footprint Added.; DatasheetVersion: ver2.0, Mar-2006; PackageVersion: ver1.2.1, Mar-2005; PackageReference: FG324; Publisher: Altium Limited; PackageDescription: 324-Ball Fine Pitch Ball Grid Array 1.00 mm Pitch (FG324); Supplier 1: Digi-Key; Supplier Part Number 1: XCR3384XL12FG324C-ND; Code_JEDEC: MS-034-AAJ-1; ComponentLink1Description: XCR3384XL Datasheet; ComponentLink1URL: http://www.xilinx.com/support/documentation/data_sheets/ds024.pdf; ComponentLink2Description: FG324 Package Drawing; ComponentLink2URL: http://www.xilinx.com/support/documentation/package_specs/fg324.pdf; ComponentLink3Description: CoolRunner XPLA3 Documents; ComponentLink3URL: http://www.xilinx.com/support/documentation/coolrunner_xpla3.htm; ComponentLink4Description: Xilinx.com Home; ComponentLink4URL: http://www.xilinx.com
footprint FG324 (BGA, 324-Leads, Body 23x23mm, Pitch 1mm)
signal-integrity model XCR3384XL_FG324 (CoolRunner XPLA3)
part A pins: E20 I/O (io), E21 I/O (io), E22 I/O (io), F19 I/O (io), F20 I/O (io), F21 I/O (io), F22 I/O (io), G19 I/O (io), G21 I/O (io), G22 I/O (io), H20 I/O (io), H21 I/O (io), J19 I/O (io), J21 I/O (io), J22 I/O (io), K19 I/O (io), K21 I/O (io), K22 I/O (io)
part B pins: A20 I/O (io), B18 I/O (io), B19 I/O (io), B20 I/O (io), B21 I/O (io), C18 I/O (io), C19 I/O (io), C22 I/O (io), D22 I/O (io), L19 I/O (io), L20 I/O (io), L21 I/O (io), M19 I/O (io), M20 I/O (io), M22 I/O (io), N19 I/O (io), N21 I/O (io), N22 I/O (io)
part C pins: AA16 I/O (io), AA17 I/O (io), AA18 I/O (io), AA19 I/O (io), AB17 I/O (io), AB18 I/O (io), P19 I/O (io), P20 I/O, TCK (io), P22 I/O (io), R20 I/O (io), R21 I/O (io), R22 I/O (io), T20 I/O (io), T21 I/O (io), T22 I/O (io), W16 I/O (io), W17 I/O (io), Y16 I/O (io)
part D pins: AA20 I/O (io), AA21 I/O (io), T19 I/O (io), U19 I/O (io), U20 I/O (io), U21 I/O (io), U22 I/O (io), V20 I/O (io), V21 I/O (io), V22 I/O (io), W20 I/O (io), W21 I/O (io), W22 I/O (io), Y18 I/O (io), Y19 I/O (io), Y20 I/O (io), Y21 I/O (io), Y22 I/O (io)
part E pins: A9 I/O (io), A10 I/O (io), A15 I/O (io), A16 I/O (io), B9 I/O (io), B10 I/O (io), B11 I/O (io), B14 I/O, TDO (io), B15 I/O (io), C10 I/O (io), C11 I/O (io), C13 I/O (io), C14 I/O (io), C15 I/O (io), D10 I/O (io), D11 I/O, TDI (io), D13 I/O (io), D14 I/O (io)
part F pins: A7 I/O (io), A8 I/O (io), A17 I/O (io), A18 I/O (io), A19 I/O (io), B7 I/O (io), B8 I/O (io), B16 I/O (io), B17 I/O (io), C7 I/O (io), C8 I/O (io), C9 I/O (io), C16 I/O (io), C17 I/O (io), D7 I/O (io), D9 I/O (io), D16 I/O (io), D17 I/O (io)
part G pins: AA6 I/O (io), AA7 I/O (io), AA8 I/O (io), AA14 I/O (io), AA15 I/O (io), AB6 I/O (io), AB7 I/O (io), AB14 I/O (io), AB15 I/O (io), AB16 I/O (io), W7 I/O (io), W13 I/O (io), W14 I/O (io), Y6 I/O (io), Y7 I/O (io), Y8 I/O (io), Y14 I/O (io), Y15 I/O (io)
part H pins: AA9 I/O (io), AA10 I/O (io), AA11 I/O (io), AA12 I/O (io), AA13 I/O (io), AB8 I/O (io), AB9 I/O (io), AB11 I/O (io), AB12 I/O (io), AB13 I/O (io), W9 I/O (io), W10 I/O (io), W11 I/O (io), W12 I/O (io), Y9 I/O (io), Y10 I/O (io), Y11 I/O (io), Y13 I/O (io)
part I pins: B2 I/O (io), C2 I/O (io), D1 I/O (io), D2 I/O (io), D3 I/O (io), E1 I/O (io), E2 I/O (io), E3 I/O (io), F2 I/O (io), F3 I/O (io), F4 I/O (io), G2 I/O (io), G3 I/O (io), G4 I/O (io), H1 I/O (io), H2 I/O (io), H3 I/O (io), J4 I/O (io)
part J pins: A4 I/O (io), A5 I/O (io), B4 I/O (io), B5 I/O (io), B6 I/O (io), C4 I/O (io), C5 I/O (io), C6 I/O (io), D6 I/O (io), J2 I/O (io), J3 I/O (io), K1 I/O (io), K2 I/O (io), K3 I/O (io), K4 I/O (io), L2 I/O (io), L3 I/O (io), L4 I/O (io)
part K pins: AA3 I/O (io), AA4 I/O (io), AA5 I/O (io), AB3 I/O (io), AB4 I/O (io), AB5 I/O (io), M2 I/O (io), M3 I/O (io), M4 I/O (io), N1 I/O (io), N2 I/O, TMS (io), N3 I/O (io), N4 I/O (io), P1 I/O (io), P2 I/O (io), W6 I/O (io), Y4 I/O (io), Y5 I/O (io)
part L pins: AA2 I/O (io), P3 I/O (io), P4 I/O (io), R1 I/O (io), R2 I/O (io), R3 I/O (io), T2 I/O (io), T3 I/O (io), U2 I/O (io), U3 I/O (io), U4 I/O (io), V2 I/O (io), V3 I/O (io), W1 I/O (io), W2 I/O (io), W3 I/O (io), Y2 I/O (io), Y3 I/O (io)
part M pins: A12 IN3 / CLK3 (in), B12 IN1 / CLK1 (in), C12 IN0 / CLK0 (in), D12 IN2 / CLK2 (in), T4 PORT_EN (in)
part N pins: A11 VCC (power), A13 VCC (power), AB10 VCC (power), D8 VCC (power), D15 VCC (power), H4 VCC (power), H19 VCC (power), J10 VCC (power), J11 VCC (power), J12 VCC (power), J13 VCC (power), K9 VCC (power), K14 VCC (power), L9 VCC (power), L14 VCC (power), M1 VCC (power), M9 VCC (power), M14 VCC (power), N9 VCC (power), N14 VCC (power), N20 VCC (power), P10 VCC (power), P11 VCC (power), P12 VCC (power), P13 VCC (power), R4 VCC (power), R19 VCC (power), W8 VCC (power), W15 VCC (power), Y12 VCC (power)
part O pins: D4 GND (power), D5 GND (power), D18 GND (power), D19 GND (power), E4 GND (power), E19 GND (power), J9 GND (power), J14 GND (power), K10 GND (power), K11 GND (power), K12 GND (power), K13 GND (power), L10 GND (power), L11 GND (power), L12 GND (power), L13 GND (power), M10 GND (power), M11 GND (power), M12 GND (power), M13 GND (power), N10 GND (power), N11 GND (power), N12 GND (power), N13 GND (power), P9 GND (power), P14 GND (power), V4 GND (power), V19 GND (power), W4 GND (power), W5 GND (power), W18 GND (power), W19 GND (power)
part P pins: A1 NC, A2 NC, A3 NC, A6 NC, A14 NC, A21 NC, A22 NC, AA1 NC, AA22 NC, AB1 NC, AB2 NC, AB19 NC, AB20 NC, AB21 NC, AB22 NC, B1 NC, B3 NC, B13 NC, B22 NC, C1 NC, C3 NC, C20 NC, C21 NC, D20 NC, D21 NC, F1 NC, G1 NC, G20 NC, H22 NC, J1 NC, J20 NC, K20 NC, L1 NC, L22 NC, M21 NC, P21 NC, T1 NC, U1 NC, V1 NC, Y1 NC, Y17 NC
part A text: BANK 1; BANK 2
part B text: BANK 3; BANK 4
part C text: BANK 5; BANK 6
part D text: BANK 7; BANK 8
part E text: BANK 9; BANK 10
part F text: BANK 11; BANK 12
part G text: BANK 13; BANK 14
part H text: BANK 15; BANK 16
part I text: BANK 17; BANK 18
part J text: BANK 19; BANK 20
part K text: BANK 21; BANK 22
part L text: BANK 23; BANK 24

## XCR3384XL-12FG324I
designator U?
CoolRunner XPLA3 3.3V, 384 Macrocell CPLD, 220 User I/Os, 324-Ball FBGA, Industrial Grade; Published: 17-Jul-2002; LatestRevisionDate: 13-Apr-2006; LatestRevisionNote: IPC-7351 Footprint Added.; DatasheetVersion: ver2.0, Mar-2006; PackageVersion: ver1.2.1, Mar-2005; PackageReference: FG324; Publisher: Altium Limited; PackageDescription: 324-Ball Fine Pitch Ball Grid Array 1.00 mm Pitch (FG324); Supplier 1: Digi-Key; Supplier Part Number 1: XCR3384XL12FG324I-ND; Code_JEDEC: MS-034-AAJ-1; ComponentLink1Description: XCR3384XL Datasheet; ComponentLink1URL: http://www.xilinx.com/support/documentation/data_sheets/ds024.pdf; ComponentLink2Description: FG324 Package Drawing; ComponentLink2URL: http://www.xilinx.com/support/documentation/package_specs/fg324.pdf; ComponentLink3Description: CoolRunner XPLA3 Documents; ComponentLink3URL: http://www.xilinx.com/support/documentation/coolrunner_xpla3.htm; ComponentLink4Description: Xilinx.com Home; ComponentLink4URL: http://www.xilinx.com
footprint FG324 (BGA, 324-Leads, Body 23x23mm, Pitch 1mm)
signal-integrity model XCR3384XL_FG324 (CoolRunner XPLA3)
part A pins: E20 I/O (io), E21 I/O (io), E22 I/O (io), F19 I/O (io), F20 I/O (io), F21 I/O (io), F22 I/O (io), G19 I/O (io), G21 I/O (io), G22 I/O (io), H20 I/O (io), H21 I/O (io), J19 I/O (io), J21 I/O (io), J22 I/O (io), K19 I/O (io), K21 I/O (io), K22 I/O (io)
part B pins: A20 I/O (io), B18 I/O (io), B19 I/O (io), B20 I/O (io), B21 I/O (io), C18 I/O (io), C19 I/O (io), C22 I/O (io), D22 I/O (io), L19 I/O (io), L20 I/O (io), L21 I/O (io), M19 I/O (io), M20 I/O (io), M22 I/O (io), N19 I/O (io), N21 I/O (io), N22 I/O (io)
part C pins: AA16 I/O (io), AA17 I/O (io), AA18 I/O (io), AA19 I/O (io), AB17 I/O (io), AB18 I/O (io), P19 I/O (io), P20 I/O, TCK (io), P22 I/O (io), R20 I/O (io), R21 I/O (io), R22 I/O (io), T20 I/O (io), T21 I/O (io), T22 I/O (io), W16 I/O (io), W17 I/O (io), Y16 I/O (io)
part D pins: AA20 I/O (io), AA21 I/O (io), T19 I/O (io), U19 I/O (io), U20 I/O (io), U21 I/O (io), U22 I/O (io), V20 I/O (io), V21 I/O (io), V22 I/O (io), W20 I/O (io), W21 I/O (io), W22 I/O (io), Y18 I/O (io), Y19 I/O (io), Y20 I/O (io), Y21 I/O (io), Y22 I/O (io)
part E pins: A9 I/O (io), A10 I/O (io), A15 I/O (io), A16 I/O (io), B9 I/O (io), B10 I/O (io), B11 I/O (io), B14 I/O, TDO (io), B15 I/O (io), C10 I/O (io), C11 I/O (io), C13 I/O (io), C14 I/O (io), C15 I/O (io), D10 I/O (io), D11 I/O, TDI (io), D13 I/O (io), D14 I/O (io)
part F pins: A7 I/O (io), A8 I/O (io), A17 I/O (io), A18 I/O (io), A19 I/O (io), B7 I/O (io), B8 I/O (io), B16 I/O (io), B17 I/O (io), C7 I/O (io), C8 I/O (io), C9 I/O (io), C16 I/O (io), C17 I/O (io), D7 I/O (io), D9 I/O (io), D16 I/O (io), D17 I/O (io)
part G pins: AA6 I/O (io), AA7 I/O (io), AA8 I/O (io), AA14 I/O (io), AA15 I/O (io), AB6 I/O (io), AB7 I/O (io), AB14 I/O (io), AB15 I/O (io), AB16 I/O (io), W7 I/O (io), W13 I/O (io), W14 I/O (io), Y6 I/O (io), Y7 I/O (io), Y8 I/O (io), Y14 I/O (io), Y15 I/O (io)
part H pins: AA9 I/O (io), AA10 I/O (io), AA11 I/O (io), AA12 I/O (io), AA13 I/O (io), AB8 I/O (io), AB9 I/O (io), AB11 I/O (io), AB12 I/O (io), AB13 I/O (io), W9 I/O (io), W10 I/O (io), W11 I/O (io), W12 I/O (io), Y9 I/O (io), Y10 I/O (io), Y11 I/O (io), Y13 I/O (io)
part I pins: B2 I/O (io), C2 I/O (io), D1 I/O (io), D2 I/O (io), D3 I/O (io), E1 I/O (io), E2 I/O (io), E3 I/O (io), F2 I/O (io), F3 I/O (io), F4 I/O (io), G2 I/O (io), G3 I/O (io), G4 I/O (io), H1 I/O (io), H2 I/O (io), H3 I/O (io), J4 I/O (io)
part J pins: A4 I/O (io), A5 I/O (io), B4 I/O (io), B5 I/O (io), B6 I/O (io), C4 I/O (io), C5 I/O (io), C6 I/O (io), D6 I/O (io), J2 I/O (io), J3 I/O (io), K1 I/O (io), K2 I/O (io), K3 I/O (io), K4 I/O (io), L2 I/O (io), L3 I/O (io), L4 I/O (io)
part K pins: AA3 I/O (io), AA4 I/O (io), AA5 I/O (io), AB3 I/O (io), AB4 I/O (io), AB5 I/O (io), M2 I/O (io), M3 I/O (io), M4 I/O (io), N1 I/O (io), N2 I/O, TMS (io), N3 I/O (io), N4 I/O (io), P1 I/O (io), P2 I/O (io), W6 I/O (io), Y4 I/O (io), Y5 I/O (io)
part L pins: AA2 I/O (io), P3 I/O (io), P4 I/O (io), R1 I/O (io), R2 I/O (io), R3 I/O (io), T2 I/O (io), T3 I/O (io), U2 I/O (io), U3 I/O (io), U4 I/O (io), V2 I/O (io), V3 I/O (io), W1 I/O (io), W2 I/O (io), W3 I/O (io), Y2 I/O (io), Y3 I/O (io)
part M pins: A12 IN3 / CLK3 (in), B12 IN1 / CLK1 (in), C12 IN0 / CLK0 (in), D12 IN2 / CLK2 (in), T4 PORT_EN (in)
part N pins: A11 VCC (power), A13 VCC (power), AB10 VCC (power), D8 VCC (power), D15 VCC (power), H4 VCC (power), H19 VCC (power), J10 VCC (power), J11 VCC (power), J12 VCC (power), J13 VCC (power), K9 VCC (power), K14 VCC (power), L9 VCC (power), L14 VCC (power), M1 VCC (power), M9 VCC (power), M14 VCC (power), N9 VCC (power), N14 VCC (power), N20 VCC (power), P10 VCC (power), P11 VCC (power), P12 VCC (power), P13 VCC (power), R4 VCC (power), R19 VCC (power), W8 VCC (power), W15 VCC (power), Y12 VCC (power)
part O pins: D4 GND (power), D5 GND (power), D18 GND (power), D19 GND (power), E4 GND (power), E19 GND (power), J9 GND (power), J14 GND (power), K10 GND (power), K11 GND (power), K12 GND (power), K13 GND (power), L10 GND (power), L11 GND (power), L12 GND (power), L13 GND (power), M10 GND (power), M11 GND (power), M12 GND (power), M13 GND (power), N10 GND (power), N11 GND (power), N12 GND (power), N13 GND (power), P9 GND (power), P14 GND (power), V4 GND (power), V19 GND (power), W4 GND (power), W5 GND (power), W18 GND (power), W19 GND (power)
part P pins: A1 NC, A2 NC, A3 NC, A6 NC, A14 NC, A21 NC, A22 NC, AA1 NC, AA22 NC, AB1 NC, AB2 NC, AB19 NC, AB20 NC, AB21 NC, AB22 NC, B1 NC, B3 NC, B13 NC, B22 NC, C1 NC, C3 NC, C20 NC, C21 NC, D20 NC, D21 NC, F1 NC, G1 NC, G20 NC, H22 NC, J1 NC, J20 NC, K20 NC, L1 NC, L22 NC, M21 NC, P21 NC, T1 NC, U1 NC, V1 NC, Y1 NC, Y17 NC
part A text: BANK 1; BANK 2
part B text: BANK 3; BANK 4
part C text: BANK 5; BANK 6
part D text: BANK 7; BANK 8
part E text: BANK 9; BANK 10
part F text: BANK 11; BANK 12
part G text: BANK 13; BANK 14
part H text: BANK 15; BANK 16
part I text: BANK 17; BANK 18
part J text: BANK 19; BANK 20
part K text: BANK 21; BANK 22
part L text: BANK 23; BANK 24

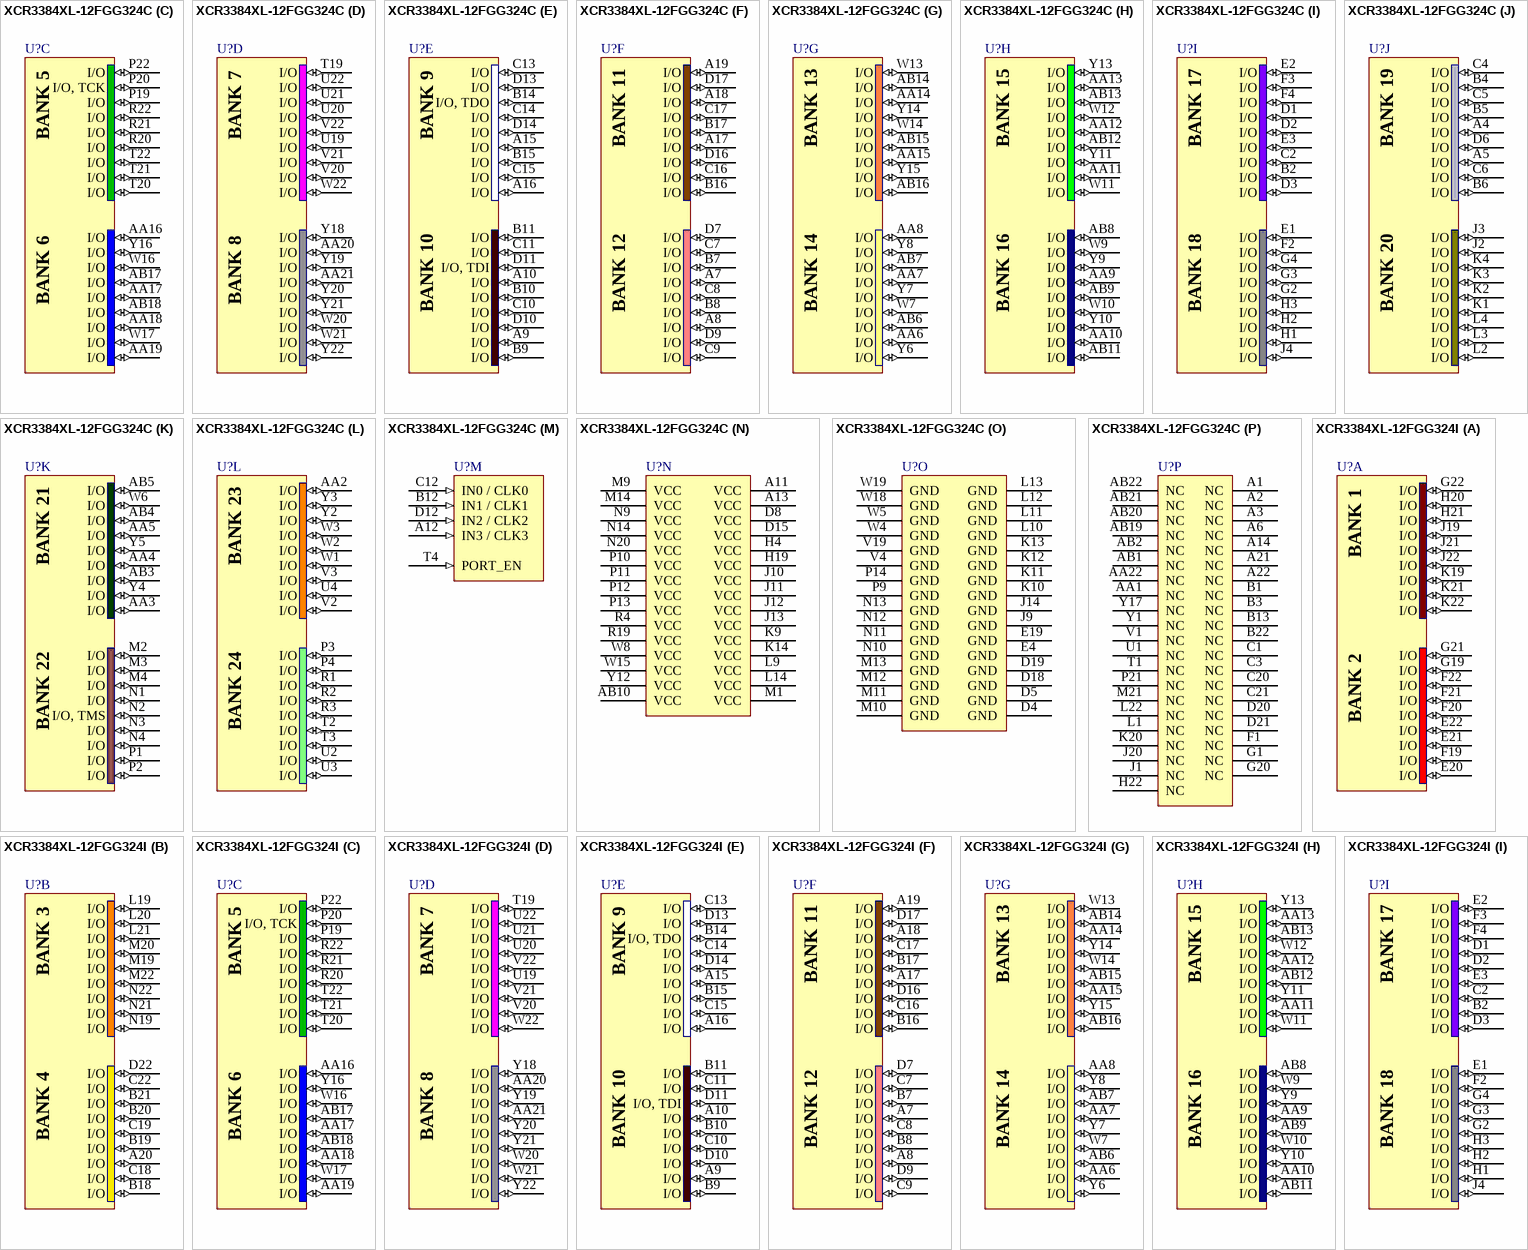
[diagram p62: symbols XCR3384XL-12FGG324C to XCR3384XL-12FGG324I]

## XCR3384XL-12FGG324C
designator U?
CoolRunner XPLA3 3.3V, 384 Macrocell CPLD, 220 User I/Os, 324-Ball FBGA, Commercial Grade, Pb-Free; ComponentAvailability: FGG324 package not available.; Published: 6-Oct-2005; LatestRevisionDate: 13-Apr-2006; LatestRevisionNote: IPC-7351 Footprint Added.; DatasheetVersion: ver1.9, Apr-2005; PackageVersion: ver1.2.1, Mar-2005; PackageReference: FGG324; Publisher: Altium Limited; PackageDescription: 324-Ball Fine Pitch Ball Grid Array 1.00 mm Pitch (FGG324) - Pb-Free; Code_JEDEC: MS-034-AAJ-1; ComponentLink1Description: XCR3384XL Datasheet; ComponentLink1URL: http://www.xilinx.com/support/documentation/data_sheets/ds024.pdf; ComponentLink2Description: FGG324 Package Drawing; ComponentLink2URL: http://www.xilinx.com/support/documentation/package_specs/fg324.pdf; ComponentLink3Description: CoolRunner XPLA3 Documents; ComponentLink3URL: http://www.xilinx.com/support/documentation/coolrunner_xpla3.htm; ComponentLink4Description: Xilinx.com Home; ComponentLink4URL: http://www.xilinx.com
footprint FGG324 (BGA, 324-Leads, Body 23x23mm, Pitch 1mm)
signal-integrity model XCR3384XL_FG324 (CoolRunner XPLA3)
part A pins: E20 I/O (io), E21 I/O (io), E22 I/O (io), F19 I/O (io), F20 I/O (io), F21 I/O (io), F22 I/O (io), G19 I/O (io), G21 I/O (io), G22 I/O (io), H20 I/O (io), H21 I/O (io), J19 I/O (io), J21 I/O (io), J22 I/O (io), K19 I/O (io), K21 I/O (io), K22 I/O (io)
part B pins: A20 I/O (io), B18 I/O (io), B19 I/O (io), B20 I/O (io), B21 I/O (io), C18 I/O (io), C19 I/O (io), C22 I/O (io), D22 I/O (io), L19 I/O (io), L20 I/O (io), L21 I/O (io), M19 I/O (io), M20 I/O (io), M22 I/O (io), N19 I/O (io), N21 I/O (io), N22 I/O (io)
part C pins: AA16 I/O (io), AA17 I/O (io), AA18 I/O (io), AA19 I/O (io), AB17 I/O (io), AB18 I/O (io), P19 I/O (io), P20 I/O, TCK (io), P22 I/O (io), R20 I/O (io), R21 I/O (io), R22 I/O (io), T20 I/O (io), T21 I/O (io), T22 I/O (io), W16 I/O (io), W17 I/O (io), Y16 I/O (io)
part D pins: AA20 I/O (io), AA21 I/O (io), T19 I/O (io), U19 I/O (io), U20 I/O (io), U21 I/O (io), U22 I/O (io), V20 I/O (io), V21 I/O (io), V22 I/O (io), W20 I/O (io), W21 I/O (io), W22 I/O (io), Y18 I/O (io), Y19 I/O (io), Y20 I/O (io), Y21 I/O (io), Y22 I/O (io)
part E pins: A9 I/O (io), A10 I/O (io), A15 I/O (io), A16 I/O (io), B9 I/O (io), B10 I/O (io), B11 I/O (io), B14 I/O, TDO (io), B15 I/O (io), C10 I/O (io), C11 I/O (io), C13 I/O (io), C14 I/O (io), C15 I/O (io), D10 I/O (io), D11 I/O, TDI (io), D13 I/O (io), D14 I/O (io)
part F pins: A7 I/O (io), A8 I/O (io), A17 I/O (io), A18 I/O (io), A19 I/O (io), B7 I/O (io), B8 I/O (io), B16 I/O (io), B17 I/O (io), C7 I/O (io), C8 I/O (io), C9 I/O (io), C16 I/O (io), C17 I/O (io), D7 I/O (io), D9 I/O (io), D16 I/O (io), D17 I/O (io)
part G pins: AA6 I/O (io), AA7 I/O (io), AA8 I/O (io), AA14 I/O (io), AA15 I/O (io), AB6 I/O (io), AB7 I/O (io), AB14 I/O (io), AB15 I/O (io), AB16 I/O (io), W7 I/O (io), W13 I/O (io), W14 I/O (io), Y6 I/O (io), Y7 I/O (io), Y8 I/O (io), Y14 I/O (io), Y15 I/O (io)
part H pins: AA9 I/O (io), AA10 I/O (io), AA11 I/O (io), AA12 I/O (io), AA13 I/O (io), AB8 I/O (io), AB9 I/O (io), AB11 I/O (io), AB12 I/O (io), AB13 I/O (io), W9 I/O (io), W10 I/O (io), W11 I/O (io), W12 I/O (io), Y9 I/O (io), Y10 I/O (io), Y11 I/O (io), Y13 I/O (io)
part I pins: B2 I/O (io), C2 I/O (io), D1 I/O (io), D2 I/O (io), D3 I/O (io), E1 I/O (io), E2 I/O (io), E3 I/O (io), F2 I/O (io), F3 I/O (io), F4 I/O (io), G2 I/O (io), G3 I/O (io), G4 I/O (io), H1 I/O (io), H2 I/O (io), H3 I/O (io), J4 I/O (io)
part J pins: A4 I/O (io), A5 I/O (io), B4 I/O (io), B5 I/O (io), B6 I/O (io), C4 I/O (io), C5 I/O (io), C6 I/O (io), D6 I/O (io), J2 I/O (io), J3 I/O (io), K1 I/O (io), K2 I/O (io), K3 I/O (io), K4 I/O (io), L2 I/O (io), L3 I/O (io), L4 I/O (io)
part K pins: AA3 I/O (io), AA4 I/O (io), AA5 I/O (io), AB3 I/O (io), AB4 I/O (io), AB5 I/O (io), M2 I/O (io), M3 I/O (io), M4 I/O (io), N1 I/O (io), N2 I/O, TMS (io), N3 I/O (io), N4 I/O (io), P1 I/O (io), P2 I/O (io), W6 I/O (io), Y4 I/O (io), Y5 I/O (io)
part L pins: AA2 I/O (io), P3 I/O (io), P4 I/O (io), R1 I/O (io), R2 I/O (io), R3 I/O (io), T2 I/O (io), T3 I/O (io), U2 I/O (io), U3 I/O (io), U4 I/O (io), V2 I/O (io), V3 I/O (io), W1 I/O (io), W2 I/O (io), W3 I/O (io), Y2 I/O (io), Y3 I/O (io)
part M pins: A12 IN3 / CLK3 (in), B12 IN1 / CLK1 (in), C12 IN0 / CLK0 (in), D12 IN2 / CLK2 (in), T4 PORT_EN (in)
part N pins: A11 VCC (power), A13 VCC (power), AB10 VCC (power), D8 VCC (power), D15 VCC (power), H4 VCC (power), H19 VCC (power), J10 VCC (power), J11 VCC (power), J12 VCC (power), J13 VCC (power), K9 VCC (power), K14 VCC (power), L9 VCC (power), L14 VCC (power), M1 VCC (power), M9 VCC (power), M14 VCC (power), N9 VCC (power), N14 VCC (power), N20 VCC (power), P10 VCC (power), P11 VCC (power), P12 VCC (power), P13 VCC (power), R4 VCC (power), R19 VCC (power), W8 VCC (power), W15 VCC (power), Y12 VCC (power)
part O pins: D4 GND (power), D5 GND (power), D18 GND (power), D19 GND (power), E4 GND (power), E19 GND (power), J9 GND (power), J14 GND (power), K10 GND (power), K11 GND (power), K12 GND (power), K13 GND (power), L10 GND (power), L11 GND (power), L12 GND (power), L13 GND (power), M10 GND (power), M11 GND (power), M12 GND (power), M13 GND (power), N10 GND (power), N11 GND (power), N12 GND (power), N13 GND (power), P9 GND (power), P14 GND (power), V4 GND (power), V19 GND (power), W4 GND (power), W5 GND (power), W18 GND (power), W19 GND (power)
part P pins: A1 NC, A2 NC, A3 NC, A6 NC, A14 NC, A21 NC, A22 NC, AA1 NC, AA22 NC, AB1 NC, AB2 NC, AB19 NC, AB20 NC, AB21 NC, AB22 NC, B1 NC, B3 NC, B13 NC, B22 NC, C1 NC, C3 NC, C20 NC, C21 NC, D20 NC, D21 NC, F1 NC, G1 NC, G20 NC, H22 NC, J1 NC, J20 NC, K20 NC, L1 NC, L22 NC, M21 NC, P21 NC, T1 NC, U1 NC, V1 NC, Y1 NC, Y17 NC
part A text: BANK 1; BANK 2
part B text: BANK 3; BANK 4
part C text: BANK 5; BANK 6
part D text: BANK 7; BANK 8
part E text: BANK 9; BANK 10
part F text: BANK 11; BANK 12
part G text: BANK 13; BANK 14
part H text: BANK 15; BANK 16
part I text: BANK 17; BANK 18
part J text: BANK 19; BANK 20
part K text: BANK 21; BANK 22
part L text: BANK 23; BANK 24

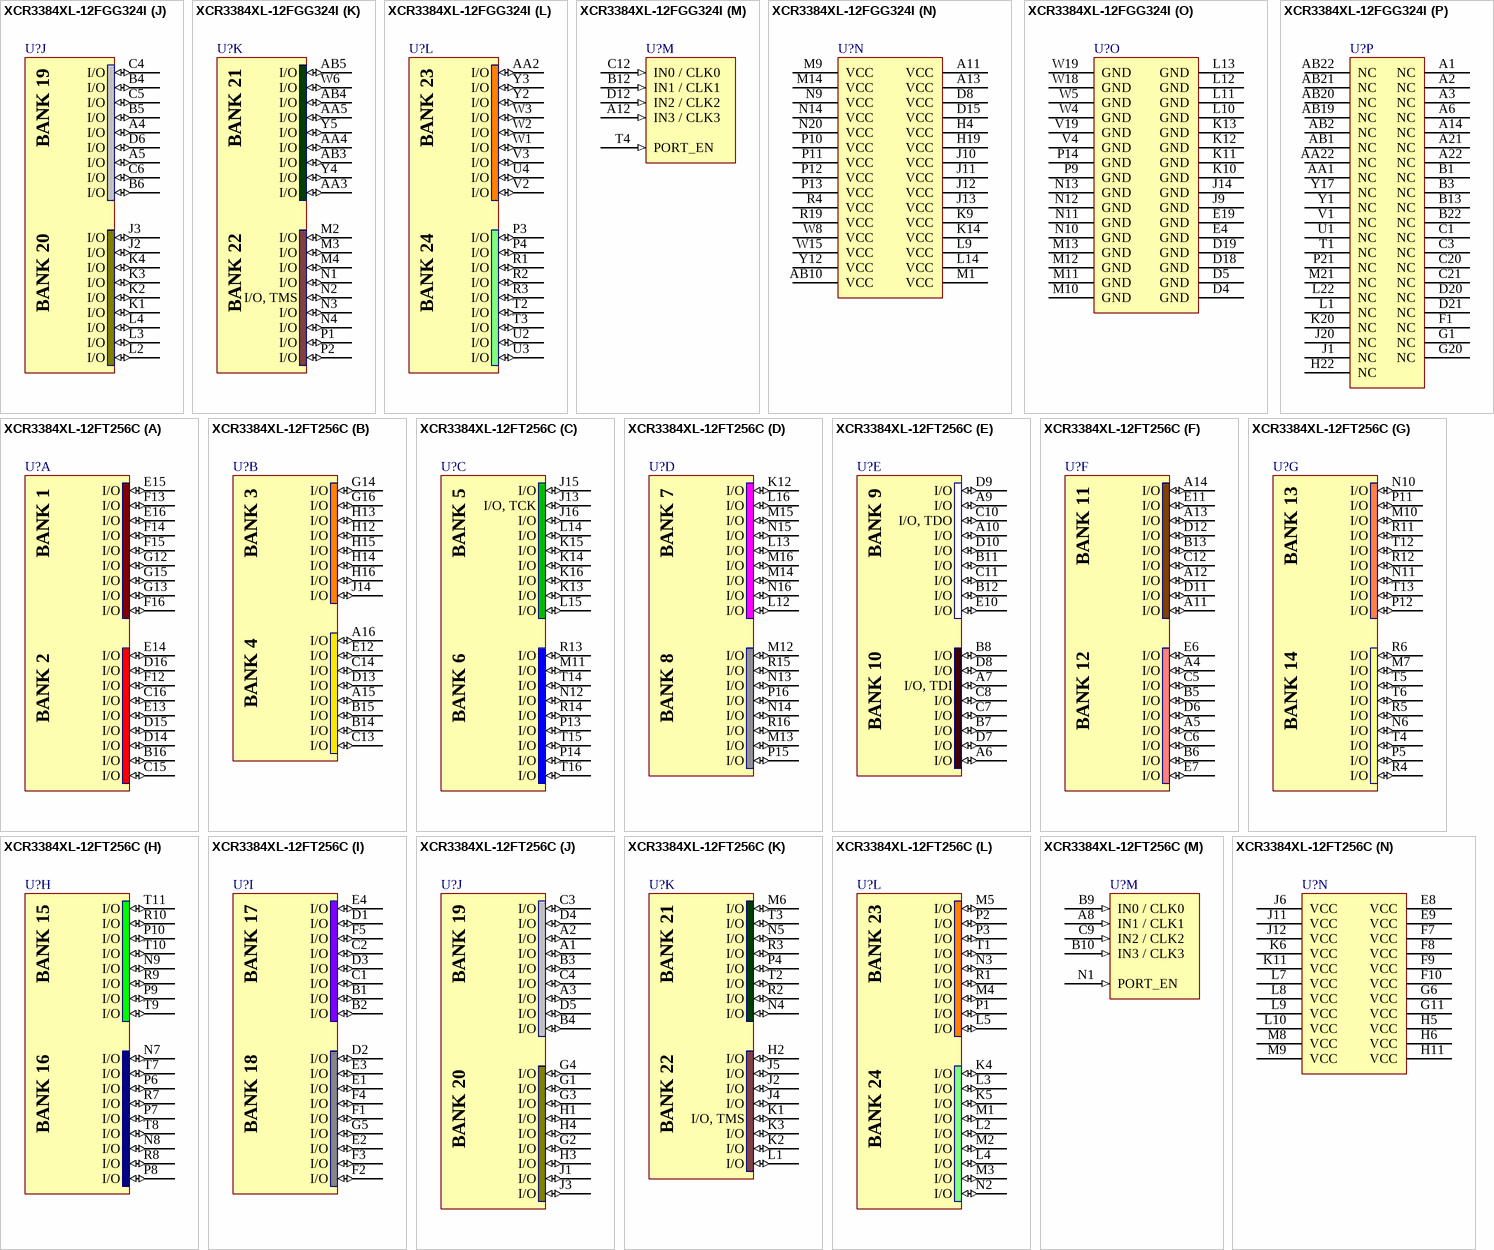
[diagram p63: symbols XCR3384XL-12FGG324I to XCR3384XL-12FT256C]

## XCR3384XL-12FGG324I
designator U?
CoolRunner XPLA3 3.3V, 384 Macrocell CPLD, 220 User I/Os, 324-Ball FBGA, Industrial Grade, Pb-Free; ComponentAvailability: FGG324 package not available.; Published: 6-Oct-2005; LatestRevisionDate: 13-Apr-2006; LatestRevisionNote: IPC-7351 Footprint Added.; DatasheetVersion: ver1.9, Apr-2005; PackageVersion: ver1.2.1, Mar-2005; PackageReference: FGG324; Publisher: Altium Limited; PackageDescription: 324-Ball Fine Pitch Ball Grid Array 1.00 mm Pitch (FGG324) - Pb-Free; Code_JEDEC: MS-034-AAJ-1; ComponentLink1Description: XCR3384XL Datasheet; ComponentLink1URL: http://www.xilinx.com/support/documentation/data_sheets/ds024.pdf; ComponentLink2Description: FGG324 Package Drawing; ComponentLink2URL: http://www.xilinx.com/support/documentation/package_specs/fg324.pdf; ComponentLink3Description: CoolRunner XPLA3 Documents; ComponentLink3URL: http://www.xilinx.com/support/documentation/coolrunner_xpla3.htm; ComponentLink4Description: Xilinx.com Home; ComponentLink4URL: http://www.xilinx.com
footprint FGG324 (BGA, 324-Leads, Body 23x23mm, Pitch 1mm)
signal-integrity model XCR3384XL_FG324 (CoolRunner XPLA3)
part A pins: E20 I/O (io), E21 I/O (io), E22 I/O (io), F19 I/O (io), F20 I/O (io), F21 I/O (io), F22 I/O (io), G19 I/O (io), G21 I/O (io), G22 I/O (io), H20 I/O (io), H21 I/O (io), J19 I/O (io), J21 I/O (io), J22 I/O (io), K19 I/O (io), K21 I/O (io), K22 I/O (io)
part B pins: A20 I/O (io), B18 I/O (io), B19 I/O (io), B20 I/O (io), B21 I/O (io), C18 I/O (io), C19 I/O (io), C22 I/O (io), D22 I/O (io), L19 I/O (io), L20 I/O (io), L21 I/O (io), M19 I/O (io), M20 I/O (io), M22 I/O (io), N19 I/O (io), N21 I/O (io), N22 I/O (io)
part C pins: AA16 I/O (io), AA17 I/O (io), AA18 I/O (io), AA19 I/O (io), AB17 I/O (io), AB18 I/O (io), P19 I/O (io), P20 I/O, TCK (io), P22 I/O (io), R20 I/O (io), R21 I/O (io), R22 I/O (io), T20 I/O (io), T21 I/O (io), T22 I/O (io), W16 I/O (io), W17 I/O (io), Y16 I/O (io)
part D pins: AA20 I/O (io), AA21 I/O (io), T19 I/O (io), U19 I/O (io), U20 I/O (io), U21 I/O (io), U22 I/O (io), V20 I/O (io), V21 I/O (io), V22 I/O (io), W20 I/O (io), W21 I/O (io), W22 I/O (io), Y18 I/O (io), Y19 I/O (io), Y20 I/O (io), Y21 I/O (io), Y22 I/O (io)
part E pins: A9 I/O (io), A10 I/O (io), A15 I/O (io), A16 I/O (io), B9 I/O (io), B10 I/O (io), B11 I/O (io), B14 I/O, TDO (io), B15 I/O (io), C10 I/O (io), C11 I/O (io), C13 I/O (io), C14 I/O (io), C15 I/O (io), D10 I/O (io), D11 I/O, TDI (io), D13 I/O (io), D14 I/O (io)
part F pins: A7 I/O (io), A8 I/O (io), A17 I/O (io), A18 I/O (io), A19 I/O (io), B7 I/O (io), B8 I/O (io), B16 I/O (io), B17 I/O (io), C7 I/O (io), C8 I/O (io), C9 I/O (io), C16 I/O (io), C17 I/O (io), D7 I/O (io), D9 I/O (io), D16 I/O (io), D17 I/O (io)
part G pins: AA6 I/O (io), AA7 I/O (io), AA8 I/O (io), AA14 I/O (io), AA15 I/O (io), AB6 I/O (io), AB7 I/O (io), AB14 I/O (io), AB15 I/O (io), AB16 I/O (io), W7 I/O (io), W13 I/O (io), W14 I/O (io), Y6 I/O (io), Y7 I/O (io), Y8 I/O (io), Y14 I/O (io), Y15 I/O (io)
part H pins: AA9 I/O (io), AA10 I/O (io), AA11 I/O (io), AA12 I/O (io), AA13 I/O (io), AB8 I/O (io), AB9 I/O (io), AB11 I/O (io), AB12 I/O (io), AB13 I/O (io), W9 I/O (io), W10 I/O (io), W11 I/O (io), W12 I/O (io), Y9 I/O (io), Y10 I/O (io), Y11 I/O (io), Y13 I/O (io)
part I pins: B2 I/O (io), C2 I/O (io), D1 I/O (io), D2 I/O (io), D3 I/O (io), E1 I/O (io), E2 I/O (io), E3 I/O (io), F2 I/O (io), F3 I/O (io), F4 I/O (io), G2 I/O (io), G3 I/O (io), G4 I/O (io), H1 I/O (io), H2 I/O (io), H3 I/O (io), J4 I/O (io)
part J pins: A4 I/O (io), A5 I/O (io), B4 I/O (io), B5 I/O (io), B6 I/O (io), C4 I/O (io), C5 I/O (io), C6 I/O (io), D6 I/O (io), J2 I/O (io), J3 I/O (io), K1 I/O (io), K2 I/O (io), K3 I/O (io), K4 I/O (io), L2 I/O (io), L3 I/O (io), L4 I/O (io)
part K pins: AA3 I/O (io), AA4 I/O (io), AA5 I/O (io), AB3 I/O (io), AB4 I/O (io), AB5 I/O (io), M2 I/O (io), M3 I/O (io), M4 I/O (io), N1 I/O (io), N2 I/O, TMS (io), N3 I/O (io), N4 I/O (io), P1 I/O (io), P2 I/O (io), W6 I/O (io), Y4 I/O (io), Y5 I/O (io)
part L pins: AA2 I/O (io), P3 I/O (io), P4 I/O (io), R1 I/O (io), R2 I/O (io), R3 I/O (io), T2 I/O (io), T3 I/O (io), U2 I/O (io), U3 I/O (io), U4 I/O (io), V2 I/O (io), V3 I/O (io), W1 I/O (io), W2 I/O (io), W3 I/O (io), Y2 I/O (io), Y3 I/O (io)
part M pins: A12 IN3 / CLK3 (in), B12 IN1 / CLK1 (in), C12 IN0 / CLK0 (in), D12 IN2 / CLK2 (in), T4 PORT_EN (in)
part N pins: A11 VCC (power), A13 VCC (power), AB10 VCC (power), D8 VCC (power), D15 VCC (power), H4 VCC (power), H19 VCC (power), J10 VCC (power), J11 VCC (power), J12 VCC (power), J13 VCC (power), K9 VCC (power), K14 VCC (power), L9 VCC (power), L14 VCC (power), M1 VCC (power), M9 VCC (power), M14 VCC (power), N9 VCC (power), N14 VCC (power), N20 VCC (power), P10 VCC (power), P11 VCC (power), P12 VCC (power), P13 VCC (power), R4 VCC (power), R19 VCC (power), W8 VCC (power), W15 VCC (power), Y12 VCC (power)
part O pins: D4 GND (power), D5 GND (power), D18 GND (power), D19 GND (power), E4 GND (power), E19 GND (power), J9 GND (power), J14 GND (power), K10 GND (power), K11 GND (power), K12 GND (power), K13 GND (power), L10 GND (power), L11 GND (power), L12 GND (power), L13 GND (power), M10 GND (power), M11 GND (power), M12 GND (power), M13 GND (power), N10 GND (power), N11 GND (power), N12 GND (power), N13 GND (power), P9 GND (power), P14 GND (power), V4 GND (power), V19 GND (power), W4 GND (power), W5 GND (power), W18 GND (power), W19 GND (power)
part P pins: A1 NC, A2 NC, A3 NC, A6 NC, A14 NC, A21 NC, A22 NC, AA1 NC, AA22 NC, AB1 NC, AB2 NC, AB19 NC, AB20 NC, AB21 NC, AB22 NC, B1 NC, B3 NC, B13 NC, B22 NC, C1 NC, C3 NC, C20 NC, C21 NC, D20 NC, D21 NC, F1 NC, G1 NC, G20 NC, H22 NC, J1 NC, J20 NC, K20 NC, L1 NC, L22 NC, M21 NC, P21 NC, T1 NC, U1 NC, V1 NC, Y1 NC, Y17 NC
part A text: BANK 1; BANK 2
part B text: BANK 3; BANK 4
part C text: BANK 5; BANK 6
part D text: BANK 7; BANK 8
part E text: BANK 9; BANK 10
part F text: BANK 11; BANK 12
part G text: BANK 13; BANK 14
part H text: BANK 15; BANK 16
part I text: BANK 17; BANK 18
part J text: BANK 19; BANK 20
part K text: BANK 21; BANK 22
part L text: BANK 23; BANK 24

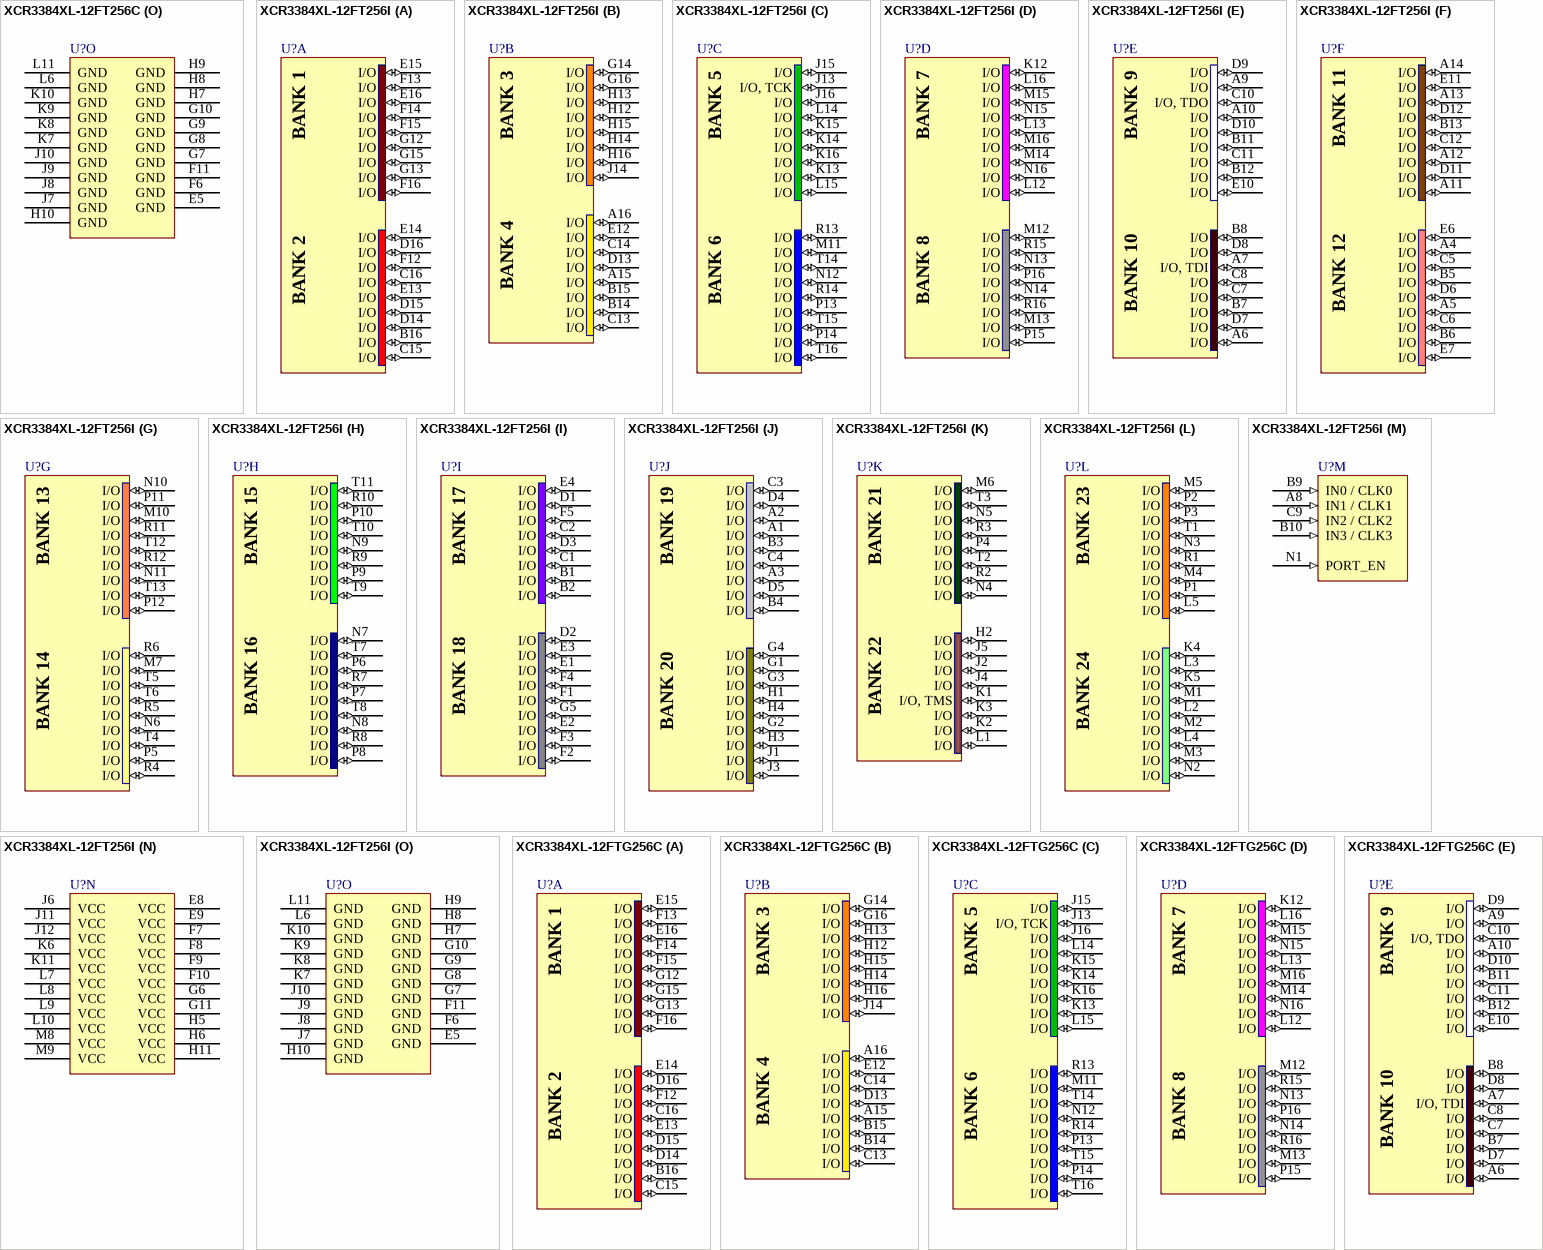
[diagram p64: symbols XCR3384XL-12FT256C to XCR3384XL-12FTG256C]